# EAGLE library part 4VFX140FF1760 (library xilinx_spartan3_virtex4_and_5)
Xilinx FPGA
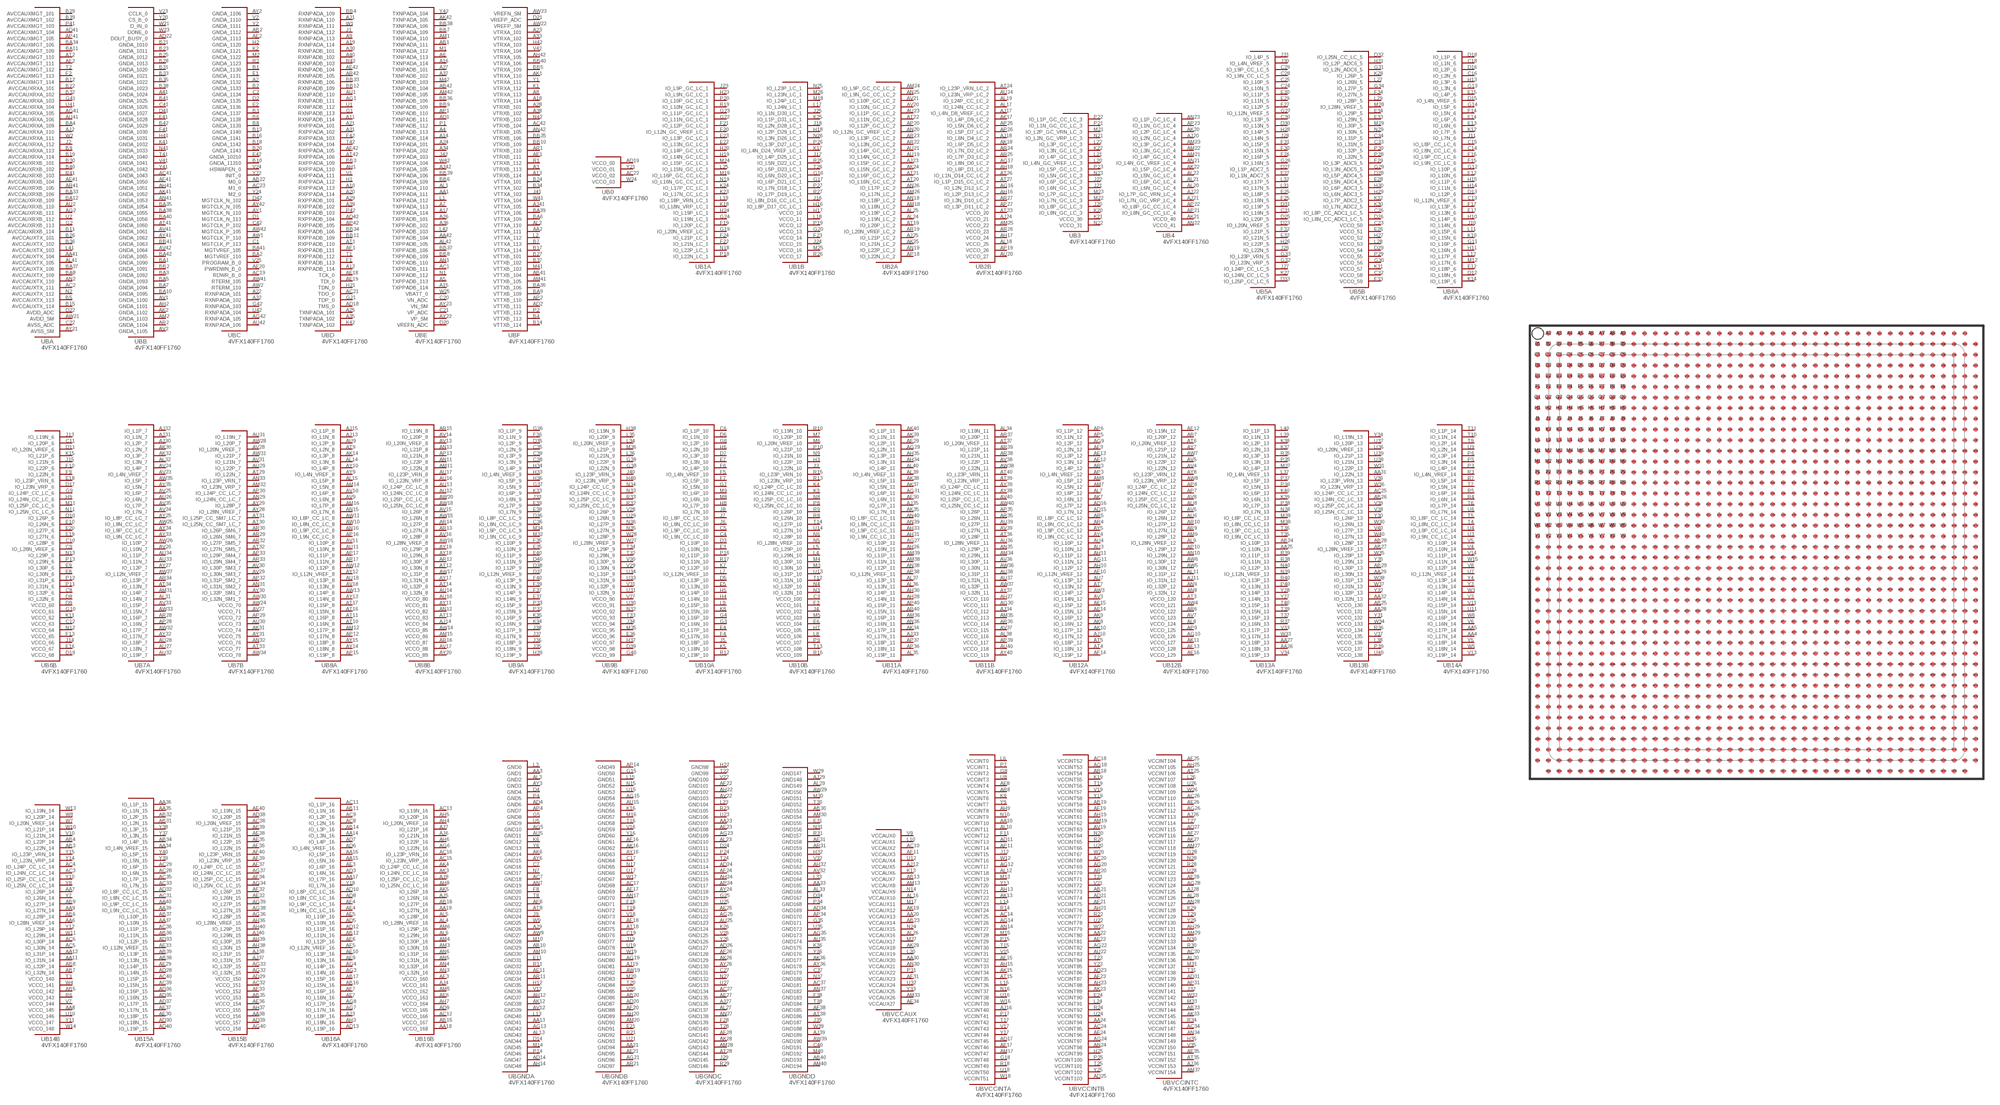
[diagram p71: symbol with the pads of FF1760; footprint FF1760]

Designator prefix U; gates BA=4VFX140FF1760_A BB=4VFX140FF1760_B BC=4VFX140FF1760_C BD=4VFX140FF1760_D BE=4VFX140FF1760_E BF=4VFX140FF1760_F B0=4VFX140FF1760_0 B1A=4VFX140FF1760_1A B1B=4VFX140FF1760_1B B2A=4VFX140FF1760_2A B2B=4VFX140FF1760_2B B3=4VFX140FF1760_3 B4=4VFX140FF1760_4 B5A=4VFX140FF1760_5A B5B=4VFX140FF1760_5B B6A=4VFX140FF1760_6A B6B=4VFX140FF1760_6B B7A=4VFX140FF1760_7A B7B=4VFX140FF1760_7B B8A=4VFX140FF1760_8A B8B=4VFX140FF1760_8B B9A=4VFX140FF1760_9A B9B=4VFX140FF1760_9B B10A=4VFX140FF1760_10A B10B=4VFX140FF1760_10B B11A=4VFX140FF1760_11A B11B=4VFX140FF1760_11B B12A=4VFX140FF1760_12A B12B=4VFX140FF1760_12B B13A=4VFX140FF1760_13A B13B=4VFX140FF1760_13B B14A=4VFX140FF1760_14A B14B=4VFX140FF1760_14B B15A=4VFX140FF1760_15A B15B=4VFX140FF1760_15B B16A=4VFX140FF1760_16A B16B=4VFX140FF1760_16B BGNDA=4VFX140FF1760_GNDA BGNDB=4VFX140FF1760_GNDB BGNDC=4VFX140FF1760_GNDC BGNDD=4VFX140FF1760_GNDD BVCCAUX=4VFX140FF1760_VCCAUX BVCCINTA=4VFX140FF1760_VCCINTA BVCCINTB=4VFX140FF1760_VCCINTB BVCCINTC=4VFX140FF1760_VCCINTC

## 4VFX140FF1760  [FF1760]
A2  BC:GNDA_1132
A3  BF:VTRXB_113
A4  BE:TXNPADB_113
A5  BE:TXPPADB_113
A6  BE:TXNPADA_113
A7  BE:TXPPADA_113
A8  BF:VTRXA_113
A9  BD:RXNPADA_113
A10  BD:RXPPADA_113
A11  BD:RXNPADB_114
A12  BD:RXPPADB_114
A13  BF:VTRXB_114
A14  BE:TXNPADB_114
A15  BE:TXPPADB_114
A16  BE:TXNPADA_114
A17  BE:TXPPADA_114
A18  BF:VTRXA_114
A19  BD:RXNPADA_114
A20  BD:RXPPADA_114
A21  BD:RXPPADA_101
A22  BC:RXNPADA_101
A23  BF:VTRXA_101
A24  BE:TXPPADA_101
A25  BD:TXNPADA_101
A26  BE:TXPPADB_101
A27  BE:TXNPADB_101
A28  BF:VTRXB_101
A29  BD:RXPPADB_101
A30  BD:RXNPADB_101
A31  BD:RXPPADA_102
A32  BC:RXNPADA_102
A33  BF:VTRXA_102
A34  BE:TXPPADA_102
A35  BD:TXNPADA_102
A36  BE:TXPPADB_102
A37  BE:TXNPADB_102
A38  BF:VTRXB_102
A39  BD:RXPPADB_102
A40  BD:RXNPADB_102
A41  BB:GNDA_1024
AA1  BE:TXPPADA_111
AA2  BF:VTTXA_111
AA3  BGNDA:GND1  pas
AA4  B14A:IO_L17N_14
AA5  B14A:IO_L17P_14
AA6  B14B:IO_L28N_VREF_14
AA7  B14B:IO_L26P_14
AA8  B14B:VCCO_145  pas
AA9  B14B:IO_L27N_14
AA10  BVCCINTA:VCCINT10  pas
AA11  B14B:IO_L31N_14
AA12  B14B:IO_L31P_14
AA13  BGNDA:GND41  pas
AA14  B16A:IO_L3N_16
AA15  B16A:IO_L5N_16
AA16  B16A:IO_L5P_16
AA17  B16A:IO_L7P_16
AA18  B16B:VCCO_168  pas
AA19  B16B:IO_L27N_16
AA20  BVCCAUX:VCCAUX13  pas
AA21  BGNDB:GND94  pas
AA22  BVCCINTB:VCCINT80  pas
AA23  BGNDC:GND107  pas
AA24  BVCCINTB:VCCINT94  pas
AA25  B13A:IO_L10N_13
AA26  B13A:IO_L18N_13
AA27  B13A:IO_L18P_13
AA28  B13B:VCCO_131  pas
AA29  B13B:IO_L30N_13
AA30  BVCCAUX:VCCAUX20  pas
AA31  B13B:IO_L22N_13
AA32  B13B:IO_L32N_13
AA33  BGNDD:GND165  pas
AA34  B15A:IO_L4N_VREF_15
AA35  B15A:IO_L1N_15
AA36  B15A:IO_L1P_15
AA37  B15A:IO_L10N_15
AA38  B15B:VCCO_156  pas
AA39  B15A:IO_L9N_CC_LC_15
AA40  B15A:IO_L9P_CC_LC_15
AA41  BA:AVCCAUXTX_104
AA42  BE:TXPPADB_104
AB1  BE:TXNPADA_111
AB2  BC:GNDA_1112
AB3  B14B:IO_L22N_14
AB4  B14B:IO_L22P_14
AB5  B14B:VCCO_142  pas
AB6  B14B:IO_L28P_14
AB7  B14B:IO_L32N_14
AB8  B14B:IO_L32P_14
AB9  B14B:IO_L27P_14
AB10  BGNDA:GND29  pas
AB11  B16A:IO_L1N_16
AB12  B16A:IO_L11N_16
AB13  BVCCAUX:VCCAUX7  pas
AB14  B16A:IO_L3P_16
AB15  B16B:VCCO_167  pas
AB16  B16A:IO_L15N_16
AB17  B16A:IO_L15P_16
AB18  B16B:IO_L27P_16
AB19  BVCCINTB:VCCINT59  pas
AB20  BGNDB:GND86  pas
AB21  BVCCINTB:VCCINT73  pas
AB22  BC:M0_0
AB23  BVCCAUX:VCCAUX14  pas
AB24  B13A:IO_L10P_13
AB25  B13B:VCCO_130  pas
AB26  B13B:IO_L24N_CC_LC_13
AB27  B13B:IO_L28N_VREF_13
AB28  B13B:IO_L28P_13
AB29  B13B:IO_L30P_13
AB30  BGNDD:GND153  pas
AB31  B15A:IO_L2N_15
AB32  B15A:IO_L2P_15
AB33  BVCCINTC:VCCINT144  pas
AB34  B15A:IO_L4P_15
AB35  B15B:VCCO_153  pas
AB36  B15A:IO_L11N_15
AB37  B15A:IO_L10P_15
AB38  B15A:IO_L13N_15
AB39  B15A:IO_L13P_15
AB40  BGNDD:GND193  pas
AB41  BF:VTTXB_104
AB42  BE:TXNPADB_104
AC1  BE:TXPPADB_111
AC2  BA:AVCCAUXTX_111
AC3  B14B:IO_L24N_CC_LC_14
AC4  B14B:IO_L24P_CC_LC_14
AC5  B14B:IO_L30N_14
AC6  B14B:IO_L30P_14
AC7  BGNDA:GND18  pas
AC8  B16A:IO_L2N_16
AC9  B16A:IO_L2P_16
AC10  BVCCAUX:VCCAUX2  pas
AC11  B16A:IO_L1P_16
AC12  B16B:VCCO_166  pas
AC13  B16B:IO_L19N_16
AC14  BVCCINTA:VCCINT25  pas
AC15  B16B:IO_L23N_VRP_16
AC16  B16B:IO_L23P_VRN_16
AC17  BGNDB:GND68  pas
AC18  BVCCINTB:VCCINT52  pas
AC19  BC:RDWR_B_0
AC20  BVCCINTB:VCCINT68  pas
AC21  BD:TDO_0
AC22  B0:VCCO_02  pas
AC23  BC:M1_0
AC24  BVCCINTB:VCCINT95  pas
AC25  B13B:IO_L24P_CC_LC_13
AC26  BVCCINTC:VCCINT110  pas
AC27  BGNDC:GND134  pas
AC28  B15A:IO_L6N_15
AC29  B15A:IO_L6P_15
AC30  BVCCINTC:VCCINT135  pas
AC31  B15A:IO_L8N_CC_LC_15
AC32  B15B:VCCO_151  pas
AC33  B15A:IO_L7N_15
AC34  BVCCINTC:VCCINT147  pas
AC35  B15A:IO_L7P_15
AC36  B15A:IO_L11P_15
AC37  BGNDD:GND181  pas
AC38  B15B:IO_L20N_VREF_15
AC39  B15A:IO_L15N_15
AC40  B15A:IO_L15P_15
AC41  BB:GNDA_1043
AC42  BF:VTRXB_104
AD1  BE:TXNPADB_111
AD2  BF:VTTXB_111
AD3  B16A:IO_L6N_16
AD4  BGNDA:GND6  pas
AD5  B16A:IO_L10N_16
AD6  B16A:IO_L4N_VREF_16
AD7  B16A:IO_L4P_16
AD8  B16A:IO_L8N_CC_LC_16
AD9  B16B:VCCO_165  pas
AD10  B16A:IO_L8P_CC_LC_16
AD11  BVCCINTA:VCCINT13  pas
AD12  B16A:IO_L11P_16
AD13  B16A:IO_L19P_16
AD14  BGNDA:GND47  pas
AD15  B12A:IO_L7N_12
AD16  B12A:IO_L7P_12
AD17  BVCCINTA:VCCINT45  pas
AD18  BD:TMS_0
AD19  B0:VCCO_00  pas
AD20  BGNDB:GND87  pas
AD21  BVCCINTB:VCCINT74  pas
AD22  BB:DOUT_BUSY_0
AD23  BVCCINTB:VCCINT86  pas
AD24  BGNDC:GND114  pas
AD25  BVCCINTB:VCCINT103  pas
AD26  BGNDC:GND127  pas
AD27  BVCCINTC:VCCINT115  pas
AD28  B15A:IO_L14N_15
AD29  B15B:VCCO_150  pas
AD30  B15A:IO_L18N_15
AD31  BVCCINTC:VCCINT139  pas
AD32  B15A:IO_L8P_CC_LC_15
AD33  B15A:IO_L12P_15
AD34  BGNDD:GND169  pas
AD35  B15A:IO_L16N_15
AD36  B15A:IO_L16P_15
AD37  B15A:IO_L17P_15
AD38  B15B:IO_L20P_15
AD39  B15B:VCCO_157  pas
AD40  B15A:IO_L19P_15
AD41  BA:AVCCAUXMGT_104
AD42  BD:RXPPADB_104
AE1  BF:VTRXB_111
AE2  BC:GNDA_1113
AE3  B16A:IO_L6P_16
AE4  B16A:IO_L9N_CC_LC_16
AE5  B16A:IO_L10P_16
AE6  B16B:VCCO_163  pas
AE7  B16A:IO_L16N_16
AE8  BVCCINTA:VCCINT4  pas
AE9  B16A:IO_L13N_16
AE10  B16A:IO_L13P_16
AE11  BGNDA:GND33  pas
AE12  B12A:IO_L3N_12
AE13  B12A:IO_L3P_12
AE14  B12A:IO_L15N_12
AE15  B12A:IO_L15P_12
AE16  B12B:VCCO_129  pas
AE17  BGNDB:GND69  pas
AE18  BD:TCK_0
AE19  BD:TDI_0
AE20  BC:PWRDWN_B_0
AE21  BGNDB:GND95  pas
AE22  BVCCINTB:VCCINT81  pas
AE23  BGNDC:GND108  pas
AE24  BVCCINTB:VCCINT96  pas
AE25  BGNDC:GND121  pas
AE26  BVCCINTC:VCCINT111  pas
AE27  BGNDC:GND135  pas
AE28  BVCCINTC:VCCINT123  pas
AE29  B15A:IO_L14P_15
AE30  B15A:IO_L18P_15
AE31  BGNDD:GND158  pas
AE32  B15B:IO_L26N_15
AE33  B15A:IO_L12N_VREF_15
AE34  BVCCAUX:VCCAUX27  pas
AE35  B15B:IO_L22P_15
AE36  B15B:VCCO_154  pas
AE37  B15A:IO_L17N_15
AE38  B15B:IO_L21N_15
AE39  B15B:IO_L21P_15
AE40  B15B:IO_L19N_15
AE41  BA:AVCCAUXRXB_104
AE42  BD:RXNPADB_104
AF1  BD:RXPPADB_111
AF2  BA:AVCCAUXMGT_111
AF3  B16B:VCCO_160  pas
AF4  B16A:IO_L9P_CC_LC_16
AF5  B16A:IO_L12N_VREF_16
AF6  B16A:IO_L12P_16
AF7  B16A:IO_L16P_16
AF8  BGNDA:GND22  pas
AF9  B12A:IO_L2N_12
AF10  B12A:IO_L12N_VREF_12
AF11  BVCCAUX:VCCAUX3  pas
AF12  B12B:IO_L19N_12
AF13  B12B:VCCO_128  pas
AF14  B12A:IO_L19P_12
AF15  BVCCINTA:VCCINT32  pas
AF16  BGNDB:GND61  pas
AF17  BVCCINTA:VCCINT46  pas
AF18  BGNDB:GND74  pas
AF19  BVCCINTB:VCCINT60  pas
AF20  BGNDB:GND88  pas
AF21  BVCCINTB:VCCINT75  pas
AF22  BGNDC:GND101  pas
AF23  BVCCINTB:VCCINT87  pas
AF24  BGNDC:GND115  pas
AF25  BVCCINTC:VCCINT104  pas
AF26  BGNDC:GND128  pas
AF27  BVCCINTC:VCCINT116  pas
AF28  BGNDC:GND141  pas
AF29  B11A:IO_L2P_11
AF30  B11A:IO_L6N_11
AF31  BVCCAUX:VCCAUX23  pas
AF32  B15B:IO_L26P_15
AF33  B15B:VCCO_152  pas
AF34  B15B:IO_L25P_CC_LC_15
AF35  BVCCINTC:VCCINT151  pas
AF36  B15B:IO_L22N_15
AF37  B15B:IO_L24P_CC_LC_15
AF38  BGNDD:GND185  pas
AF39  B15B:IO_L23N_VRP_15
AF40  B15B:IO_L23P_VRN_15
AF41  BB:GNDA_1050
AF42  BD:RXPPADA_105
AG1  BD:RXNPADB_111
AG2  BA:AVCCAUXRXB_111
AG3  B16A:IO_L14N_16
AG4  B16A:IO_L14P_16
AG5  BGNDA:GND10  pas
AG6  B16B:IO_L22N_16
AG7  B16A:IO_L17N_16
AG8  B16A:IO_L17P_16
AG9  B12A:IO_L2P_12
AG10  B12B:VCCO_126  pas
AG11  B12A:IO_L11N_12
AG12  BVCCINTA:VCCINT17  pas
AG13  BGNDA:GND42  pas
AG14  BVCCINTA:VCCINT26  pas
AG15  BGNDB:GND54  pas
AG16  B2B:IO_L2N_D12_LC_2
AG17  B2B:IO_L8N_D0_LC_2
AG18  BVCCINTB:VCCINT53  pas
AG19  BGNDB:GND80  pas
AG20  BVCCINTB:VCCINT69  pas
AG21  BGNDB:GND96  pas
AG22  BVCCINTB:VCCINT82  pas
AG23  BGNDC:GND109  pas
AG24  BVCCINTB:VCCINT97  pas
AG25  BGNDC:GND122  pas
AG26  BVCCINTC:VCCINT112  pas
AG27  B11A:IO_L10P_11
AG28  BVCCINTC:VCCINT124  pas
AG29  B11A:IO_L2N_11
AG30  B11B:VCCO_111  pas
AG31  B11A:IO_L6P_11
AG32  B15B:IO_L32N_15
AG33  B15B:IO_L32P_15
AG34  B15B:IO_L25N_CC_LC_15
AG35  BGNDD:GND173  pas
AG36  B15B:IO_L28P_15
AG37  B15B:IO_L24N_CC_LC_15
AG38  B15B:IO_L27N_15
AG39  B15B:IO_L27P_15
AG40  B15B:VCCO_158  pas
AG41  BA:AVCCAUXRXA_105
AG42  BC:RXNPADA_105
AH1  BD:RXPPADA_110
AH2  BB:GNDA_1101
AH3  B16A:IO_L18N_16
AH4  B16B:IO_L20N_VREF_16
AH5  B16B:IO_L20P_16
AH6  B16B:IO_L22P_16
AH7  B16B:VCCO_164  pas
AH8  B16B:IO_L25N_CC_LC_16
AH9  BVCCINTA:VCCINT8  pas
AH10  B12A:IO_L12P_12
AH11  B12A:IO_L11P_12
AH12  BGNDA:GND37  pas
AH13  BVCCINTA:VCCINT21  pas
AH14  BGNDA:GND48  pas
AH15  BVCCINTA:VCCINT33  pas
AH16  B2B:IO_L2P_D13_LC_2
AH17  B2B:VCCO_24  pas
AH18  B2B:IO_L8P_D1_LC_2
AH19  BVCCINTB:VCCINT61  pas
AH20  BGNDB:GND89  pas
AH21  BVCCINTB:VCCINT76  pas
AH22  BGNDC:GND102  pas
AH23  BVCCINTB:VCCINT88  pas
AH24  BGNDC:GND116  pas
AH25  BVCCINTC:VCCINT105  pas
AH26  B11A:IO_L10N_11
AH27  B11B:VCCO_110  pas
AH28  B11A:IO_L14N_11
AH29  BVCCINTC:VCCINT131  pas
AH30  B11A:IO_L14P_11
AH31  B11A:IO_L9N_CC_LC_11
AH32  BGNDD:GND162  pas
AH33  B11A:IO_L9P_CC_LC_11
AH34  B11A:IO_L3N_11
AH35  B11A:IO_L3P_11
AH36  B15B:IO_L28N_VREF_15
AH37  B15B:VCCO_155  pas
AH38  B15B:IO_L30N_15
AH39  B15B:IO_L30P_15
AH40  B15B:IO_L29P_15
AH41  BB:GNDA_1051
AH42  BF:VTRXA_105
AJ1  BD:RXNPADA_110
AJ2  BA:AVCCAUXRXA_110
AJ3  B16A:IO_L18P_16
AJ4  B16B:VCCO_161  pas
AJ5  B16B:IO_L26N_16
AJ6  B16B:IO_L21N_16
AJ7  B16B:IO_L21P_16
AJ8  B16B:IO_L25P_CC_LC_16
AJ9  BGNDA:GND26  pas
AJ10  B12A:IO_L17N_12
AJ11  B12B:IO_L31N_12
AJ12  BVCCAUX:VCCAUX5  pas
AJ13  B8A:IO_L1N_8
AJ14  B8B:VCCO_84  pas
AJ15  B8A:IO_L1P_8
AJ16  BVCCINTA:VCCINT40  pas
AJ17  B2B:IO_L4N_D8_VREF_LC_2
AJ18  B2B:IO_L6N_D4_LC_2
AJ19  BGNDB:GND81  pas
AJ20  B4:IO_L2N_GC_LC_4
AJ21  B4:IO_L7N_GC_VRP_LC_4
AJ22  B4:IO_L7P_GC_VRN_LC_4
AJ23  B2A:IO_L15P_GC_LC_2
AJ24  B2B:VCCO_21  pas
AJ25  B2A:IO_L21P_LC_2
AJ26  BVCCINTC:VCCINT113  pas
AJ27  BGNDC:GND136  pas
AJ28  BVCCINTC:VCCINT125  pas
AJ29  BGNDD:GND148  pas
AJ30  B7A:IO_L2P_7
AJ31  B7A:IO_L1N_7
AJ32  B7A:IO_L1P_7
AJ33  B11A:IO_L17N_11
AJ34  B11B:VCCO_112  pas
AJ35  B11A:IO_L7P_11
AJ36  BVCCINTC:VCCINT153  pas
AJ37  B15B:IO_L31N_15
AJ38  B15B:IO_L31P_15
AJ39  BGNDD:GND189  pas
AJ40  B15B:IO_L29N_15
AJ41  BF:VTTXA_105
AJ42  BE:TXPPADA_105
AK1  BF:VTRXA_110
AK2  BB:GNDA_1102
AK3  B16B:IO_L24N_CC_LC_16
AK4  B16B:IO_L24P_CC_LC_16
AK5  B16B:IO_L26P_16
AK6  BGNDA:GND14  pas
AK7  B12A:IO_L6N_12
AK8  B12A:IO_L16N_12
AK9  B12A:IO_L16P_12
AK10  B12A:IO_L17P_12
AK11  B12B:VCCO_127  pas
AK12  BGNDA:GND38  pas
AK13  BVCCINTA:VCCINT22  pas
AK14  B8A:IO_L3P_8
AK15  BVCCINTA:VCCINT34  pas
AK16  BGNDB:GND62  pas
AK17  B2B:IO_L4P_D9_LC_2
AK18  B2B:IO_L6P_D5_LC_2
AK19  BVCCAUX:VCCAUX12  pas
AK20  B4:IO_L2P_GC_LC_4
AK21  B4:VCCO_40  pas
AK22  B4:IO_L5P_GC_LC_4
AK23  BVCCINTB:VCCINT89  pas
AK24  B2A:IO_L15N_GC_LC_2
AK25  B2A:IO_L21N_LC_2
AK26  BGNDC:GND129  pas
AK27  BVCCINTC:VCCINT117  pas
AK28  BGNDC:GND142  pas
AK29  BVCCAUX:VCCAUX18  pas
AK30  B7A:IO_L2N_7
AK31  B7B:VCCO_74  pas
AK32  B7A:IO_L3P_7
AK33  BVCCINTC:VCCINT145  pas
AK34  B11A:IO_L17P_11
AK35  B11A:IO_L7N_11
AK36  BGNDD:GND177  pas
AK37  B11A:IO_L5N_11
AK38  B11A:IO_L5P_11
AK39  B11A:IO_L1N_11
AK40  B11A:IO_L1P_11
AK41  BB:GNDA_1052
AK42  BE:TXNPADA_105
AL1  BE:TXPPADA_110
AL2  BF:VTTXA_110
AL3  BGNDA:GND2  pas
AL4  B16B:IO_L28N_VREF_16
AL5  B16B:IO_L28P_16
AL6  B16B:IO_L29N_16
AL7  B12A:IO_L6P_12
AL8  B12B:VCCO_124  pas
AL9  B12B:IO_L28N_VREF_12
AL10  BVCCINTA:VCCINT11  pas
AL11  B12B:IO_L31P_12
AL12  BVCCINTA:VCCINT18  pas
AL13  BGNDA:GND43  pas
AL14  B8A:IO_L3N_8
AL15  B8A:IO_L5P_8
AL16  BVCCAUX:VCCAUX10  pas
AL17  B2B:IO_L24N_CC_LC_2
AL18  B2B:VCCO_25  pas
AL19  B2B:IO_L24P_CC_LC_2
AL20  B4:IO_L6N_GC_LC_4
AL21  B4:IO_L6P_GC_LC_4
AL22  B4:IO_L5N_GC_LC_4
AL23  BGNDC:GND110  pas
AL24  B2A:IO_L19N_LC_2
AL25  B2A:IO_L19P_LC_2
AL26  BVCCAUX:VCCAUX16  pas
AL27  BGNDC:GND137  pas
AL28  BVCCINTC:VCCINT126  pas
AL29  BGNDD:GND149  pas
AL30  BVCCINTC:VCCINT136  pas
AL31  B7A:IO_L14N_7
AL32  B7A:IO_L3N_7
AL33  BGNDD:GND166  pas
AL34  B11B:IO_L19N_11
AL35  B11A:IO_L19P_11
AL36  B11A:IO_L13N_11
AL37  B11A:IO_L13P_11
AL38  B11B:VCCO_116  pas
AL39  B11A:IO_L4N_VREF_11
AL40  B11A:IO_L4P_11
AL41  BA:AVCCAUXTX_105
AL42  BE:TXPPADB_105
AM1  BE:TXNPADA_110
AM2  BB:GNDA_1103
AM3  B16B:IO_L30N_16
AM4  B16B:IO_L30P_16
AM5  B16B:VCCO_162  pas
AM6  B16B:IO_L29P_16
AM7  B12A:IO_L5N_12
AM8  B12A:IO_L5P_12
AM9  B12B:IO_L28P_12
AM10  BGNDA:GND30  pas
AM11  B8B:IO_L22N_8
AM12  B8A:IO_L17P_8
AM13  BVCCAUX:VCCAUX8  pas
AM14  B8A:IO_L5N_8
AM15  B8B:VCCO_86  pas
AM16  B8A:IO_L7P_8
AM17  BVCCINTA:VCCINT47  pas
AM18  B2A:IO_L18N_LC_2
AM19  BVCCINTB:VCCINT62  pas
AM20  BGNDB:GND90  pas
AM21  B4:IO_L4P_GC_LC_4
AM22  B4:IO_L3N_GC_LC_4
AM23  B4:IO_L3P_GC_LC_4
AM24  B2A:IO_L9P_GC_CC_LC_2
AM25  B2B:VCCO_22  pas
AM26  B2A:IO_L17N_LC_2
AM27  BVCCINTC:VCCINT118  pas
AM28  BGNDC:GND143  pas
AM29  BVCCINTC:VCCINT132  pas
AM30  BGNDD:GND154  pas
AM31  B7A:IO_L14P_7
AM32  B7B:IO_L23N_VRP_7
AM33  BVCCAUX:VCCAUX26  pas
AM34  B11B:IO_L29N_11
AM35  B11B:VCCO_113  pas
AM36  B11A:IO_L16P_11
AM37  BVCCINTC:VCCINT154  pas
AM38  B11A:IO_L11N_11
AM39  B11A:IO_L11P_11
AM40  BGNDD:GND194  pas
AM41  BF:VTTXB_105
AM42  BE:TXNPADB_105
AN1  BE:TXPPADB_110
AN2  BA:AVCCAUXTX_110
AN3  B16B:IO_L32N_16
AN4  B16B:IO_L32P_16
AN5  B16B:IO_L31N_16
AN6  B16B:IO_L31P_16
AN7  BGNDA:GND19  pas
AN8  B12B:IO_L32N_12
AN9  B12B:IO_L32P_12
AN10  B12B:IO_L29N_12
AN11  B8B:IO_L22P_8
AN12  B8B:VCCO_82  pas
AN13  B8B:IO_L21P_8
AN14  BVCCINTA:VCCINT27  pas
AN15  B8A:IO_L7N_8
AN16  B8A:IO_L9P_CC_LC_8
AN17  BGNDB:GND70  pas
AN18  B2A:IO_L18P_LC_2
AN19  B2A:IO_L22P_LC_2
AN20  B2A:IO_L12N_GC_VREF_LC_2
AN21  B4:IO_L4N_GC_VREF_LC_4
AN22  B4:VCCO_41  pas
AN23  B4:IO_L1P_GC_LC_4
AN24  BVCCINTB:VCCINT98  pas
AN25  B2A:IO_L9N_GC_CC_LC_2
AN26  B2A:IO_L17P_LC_2
AN27  BGNDC:GND138  pas
AN28  BVCCINTC:VCCINT127  pas
AN29  B7B:IO_L24N_CC_LC_7
AN30  BVCCAUX:VCCAUX21  pas
AN31  B7B:IO_L31N_SM2_7
AN32  B7B:VCCO_76  pas
AN33  B7B:IO_L23P_VRN_7
AN34  BVCCINTC:VCCINT148  pas
AN35  B11B:IO_L29P_11
AN36  B11A:IO_L16N_11
AN37  BGNDD:GND182  pas
AN38  B11A:IO_L12P_11
AN39  B11A:IO_L8N_CC_LC_11
AN40  B11A:IO_L8P_CC_LC_11
AN41  BB:GNDA_1053
AN42  BF:VTRXB_105
AP1  BE:TXNPADB_110
AP2  BF:VTTXB_110
AP3  B12A:IO_L4N_VREF_12
AP4  BGNDA:GND7  pas
AP5  B12A:IO_L1N_12
AP6  B12A:IO_L1P_12
AP7  B12B:IO_L24N_CC_LC_12
AP8  B12B:IO_L24P_CC_LC_12
AP9  B12B:VCCO_125  pas
AP10  B12B:IO_L29P_12
AP11  BVCCINTA:VCCINT14  pas
AP12  B8A:IO_L17N_8
AP13  B8B:IO_L21N_8
AP14  BGNDB:GND49  pas
AP15  B8A:IO_L19P_8
AP16  B8A:IO_L9N_CC_LC_8
AP17  B8A:IO_L11P_8
AP18  B2A:IO_L22N_LC_2
AP19  B2B:VCCO_26  pas
AP20  B2A:IO_L12P_GC_LC_2
AP21  B4:IO_L8N_GC_CC_LC_4
AP22  B4:IO_L8P_GC_CC_LC_4
AP23  B4:IO_L1N_GC_LC_4
AP24  BGNDC:GND117  pas
AP25  B2B:IO_L5N_D6_LC_2
AP26  B2B:IO_L5P_D7_LC_2
AP27  B2B:IO_L3P_D11_LC_2
AP28  B7A:IO_L16N_7
AP29  B7B:VCCO_72  pas
AP30  B7B:IO_L24P_CC_LC_7
AP31  BVCCINTC:VCCINT140  pas
AP32  B7B:IO_L31P_SM2_7
AP33  B7B:IO_L29P_SM4_7
AP34  BGNDD:GND170  pas
AP35  B11B:IO_L26P_11
AP36  B11A:IO_L18N_11
AP37  B11A:IO_L18P_11
AP38  B11A:IO_L12N_VREF_11
AP39  B11B:VCCO_117  pas
AP40  B11A:IO_L15P_11
AP41  BA:AVCCAUXMGT_105
AP42  BD:RXPPADB_105
AR1  BF:VTRXB_110
AR2  BB:GNDA_1104
AR3  B12A:IO_L4P_12
AR4  B12A:IO_L8N_CC_LC_12
AR5  B12A:IO_L8P_CC_LC_12
AR6  B12B:VCCO_122  pas
AR7  B12B:IO_L20P_12
AR8  BVCCINTA:VCCINT5  pas
AR9  B12B:IO_L27N_12
AR10  B12B:IO_L27P_12
AR11  BGNDA:GND34  pas
AR12  B8B:IO_L30P_8
AR13  B8B:IO_L27N_8
AR14  B8B:IO_L27P_8
AR15  B8B:IO_L19N_8
AR16  B8B:VCCO_87  pas
AR17  B8A:IO_L11N_8
AR18  BVCCINTB:VCCINT54  pas
AR19  B2A:IO_L20N_VREF_LC_2
AR20  BVCCINTB:VCCINT70  pas
AR21  BGNDB:GND97  pas
AR22  B2A:IO_L13N_GC_LC_2
AR23  B2A:IO_L13P_GC_LC_2
AR24  B2B:IO_L7N_D2_LC_2
AR25  B2B:IO_L7P_D3_LC_2
AR26  B2B:VCCO_23  pas
AR27  B2B:IO_L3N_D10_LC_2
AR28  B7A:IO_L16P_7
AR29  B7B:IO_L26N_SM6_7
AR30  B7B:IO_L26P_SM6_7
AR31  BGNDD:GND159  pas
AR32  B7B:IO_L27P_SM5_7
AR33  B7B:IO_L29N_SM4_7
AR34  B7A:IO_L13P_7
AR35  B11B:IO_L26N_11
AR36  B11B:VCCO_114  pas
AR37  B11B:IO_L20P_11
AR38  B11B:IO_L21N_11
AR39  B11B:IO_L21P_11
AR40  B11A:IO_L15N_11
AR41  BA:AVCCAUXRXB_105
AR42  BD:RXNPADB_105
AT1  BD:RXPPADB_110
AT2  BA:AVCCAUXMGT_110
AT3  B12B:VCCO_120  pas
AT4  B12A:IO_L18N_12
AT5  B12A:IO_L18P_12
AT6  B12B:IO_L20N_VREF_12
AT7  B12A:IO_L13N_12
AT8  BGNDA:GND23  pas
AT9  B8A:IO_L2N_8
AT10  B8A:IO_L16N_8
AT11  B8A:IO_L16P_8
AT12  B8B:IO_L30N_8
AT13  B8B:VCCO_83  pas
AT14  B8B:IO_L32P_8
AT15  BVCCINTA:VCCINT35  pas
AT16  B8A:IO_L15N_8
AT17  B8A:IO_L15P_8
AT18  BGNDB:GND75  pas
AT19  B2A:IO_L20P_LC_2
AT20  B2A:IO_L16N_GC_LC_2
AT21  B2A:IO_L16P_GC_LC_2
AT22  B2A:IO_L11N_GC_LC_2
AT23  B2B:VCCO_20  pas
AT24  B2B:IO_L23P_VRN_LC_2
AT25  BVCCINTC:VCCINT106  pas
AT26  B2B:IO_L1N_D14_CC_LC_2
AT27  B2B:IO_L1P_D15_CC_LC_2
AT28  BGNDC:GND144  pas
AT29  B7B:IO_L22N_7
AT30  B7B:IO_L25N_CC_SM7_LC_7
AT31  B7B:IO_L25P_CC_SM7_LC_7
AT32  B7B:IO_L27N_SM5_7
AT33  B7B:VCCO_77  pas
AT34  B7A:IO_L13N_7
AT35  BVCCINTC:VCCINT152  pas
AT36  B11B:IO_L28P_11
AT37  B11B:IO_L20N_VREF_11
AT38  BGNDD:GND186  pas
AT39  B11B:IO_L23N_VRP_11
AT40  B11B:IO_L23P_VRN_11
AT41  BB:GNDA_1060
AT42  BD:RXPPADA_106
AU1  BD:RXNPADB_110
AU2  BA:AVCCAUXRXB_110
AU3  B12A:IO_L10N_12
AU4  B12A:IO_L10P_12
AU5  BGNDA:GND11  pas
AU6  B12B:IO_L26N_12
AU7  B12A:IO_L13P_12
AU8  B12B:IO_L25N_CC_LC_12
AU9  B8A:IO_L2P_8
AU10  B8B:VCCO_80  pas
AU11  B8A:IO_L10N_8
AU12  B8B:IO_L24N_CC_LC_8
AU13  B8B:IO_L24P_CC_LC_8
AU14  B8B:IO_L32N_8
AU15  BGNDB:GND55  pas
AU16  B8B:IO_L23N_VRP_8
AU17  B8B:IO_L23P_VRN_8
AU18  B8A:IO_L13P_8
AU19  B2A:IO_L14N_GC_LC_2
AU20  B2B:VCCO_27  pas
AU21  B2A:IO_L14P_GC_LC_2
AU22  BVCCINTB:VCCINT83  pas
AU23  B2A:IO_L11P_GC_LC_2
AU24  B2B:IO_L23N_VRP_LC_2
AU25  BGNDC:GND123  pas
AU26  B7A:IO_L6N_7
AU27  B7A:IO_L18N_7
AU28  B7A:IO_L18P_7
AU29  B7B:IO_L22P_7
AU30  B7B:VCCO_73  pas
AU31  B7B:IO_L19N_7
AU32  B7A:IO_L19P_7
AU33  B7A:IO_L11N_7
AU34  B7A:IO_L11P_7
AU35  BGNDD:GND174  pas
AU36  B11B:IO_L28N_VREF_11
AU37  B11B:IO_L31N_11
AU38  B11B:IO_L31P_11
AU39  B11B:IO_L27P_11
AU40  B11B:VCCO_118  pas
AU41  BA:AVCCAUXRXA_106
AU42  BC:RXNPADA_106
AV1  BB:GNDA_1100
AV2  BB:GNDA_1105
AV3  B12A:IO_L14N_12
AV4  B12B:IO_L22N_12
AV5  B12B:IO_L22P_12
AV6  B12B:IO_L26P_12
AV7  B12B:VCCO_123  pas
AV8  B12B:IO_L25P_CC_LC_12
AV9  B8A:IO_L6N_8
AV10  B8A:IO_L6P_8
AV11  B8A:IO_L10P_8
AV12  BGNDA:GND39  pas
AV13  B8B:IO_L20N_VREF_8
AV14  B8B:IO_L20P_8
AV15  B8B:IO_L26P_8
AV16  B8B:IO_L28P_8
AV17  B8B:VCCO_88  pas
AV18  B8A:IO_L13N_8
AV19  BVCCINTB:VCCINT63  pas
AV20  B2A:IO_L10N_GC_LC_2
AV21  B2A:IO_L10P_GC_LC_2
AV22  BGNDC:GND103  pas
AV23  B7A:IO_L4N_VREF_7
AV24  B7A:IO_L4P_7
AV25  B7A:IO_L6P_7
AV26  B7A:IO_L10N_7
AV27  B7B:VCCO_71  pas
AV28  B7B:IO_L20N_VREF_7
AV29  B7B:IO_L30N_SM3_7
AV30  B7B:IO_L30P_SM3_7
AV31  B7B:IO_L21N_7
AV32  BGNDD:GND163  pas
AV33  B7A:IO_L15P_7
AV34  B7A:IO_L7N_7
AV35  B7A:IO_L7P_7
AV36  B11B:IO_L30P_11
AV37  B11B:VCCO_115  pas
AV38  B11B:IO_L22P_11
AV39  B11B:IO_L27N_11
AV40  B11B:IO_L25P_CC_LC_11
AV41  BB:GNDA_1061
AV42  BB:GNDA_1064
AW1  BC:MGTCLK_P_110
AW2  BC:RTERM_110
AW3  B12A:IO_L14P_12
AW4  B12B:VCCO_121  pas
AW5  B12B:IO_L30N_12
AW6  B12B:IO_L30P_12
AW7  B12B:IO_L21N_12
AW8  B12B:IO_L23N_VRP_12
AW9  BGNDA:GND27  pas
AW10  B8A:IO_L8N_CC_LC_8
AW11  B8A:IO_L8P_CC_LC_8
AW12  B8A:IO_L12P_8
AW13  B8A:IO_L14P_8
AW14  B8B:VCCO_85  pas
AW15  B8B:IO_L26N_8
AW16  B8B:IO_L28N_VREF_8
AW17  B8B:IO_L31P_8
AW18  B8B:IO_L25N_CC_LC_8
AW19  BGNDB:GND82  pas
AW20  B8B:IO_L25P_CC_LC_8
AW21  BA:AVDD_SM
AW22  BF:VREFP_SM
AW23  BF:VREFN_SM
AW24  B7B:VCCO_70  pas
AW25  B7A:IO_L8N_CC_LC_7
AW26  B7A:IO_L10P_7
AW27  B7A:IO_L12N_VREF_7
AW28  B7B:IO_L20P_7
AW29  BGNDD:GND150  pas
AW30  B7B:IO_L32N_SM1_7
AW31  B7B:IO_L21P_7
AW32  B7A:IO_L17P_7
AW33  B7A:IO_L15N_7
AW34  B7B:VCCO_78  pas
AW35  B7A:IO_L5P_7
AW36  B11B:IO_L30N_11
AW37  B11B:IO_L32P_11
AW38  B11B:IO_L22N_11
AW39  BGNDD:GND190  pas
AW40  B11B:IO_L25N_CC_LC_11
AW41  BC:RTERM_105
AW42  BC:MGTCLK_P_105
AY1  BC:MGTCLK_N_110
AY2  BC:GNDA_1106
AY3  BGNDA:GND3  pas
AY4  B12A:IO_L9N_CC_LC_12
AY5  B12A:IO_L9P_CC_LC_12
AY6  BGNDA:GND15  pas
AY7  B12B:IO_L21P_12
AY8  B12B:IO_L23P_VRN_12
AY9  B8A:IO_L4N_VREF_8
AY10  B8A:IO_L4P_8
AY11  B8B:VCCO_81  pas
AY12  B8A:IO_L12N_VREF_8
AY13  B8A:IO_L14N_8
AY14  B8A:IO_L18N_8
AY15  B8A:IO_L18P_8
AY16  BGNDB:GND63  pas
AY17  B8B:IO_L31N_8
AY18  B8B:IO_L29N_8
AY19  B8B:IO_L29P_8
AY20  B8B:VCCO_89  pas
AY21  BA:AVSS_SM
AY22  BE:VP_SM
AY23  BE:VN_SM
AY24  BGNDC:GND118  pas
AY25  B7A:IO_L8P_CC_LC_7
AY26  BGNDC:GND130  pas
AY27  B7A:IO_L12P_7
AY28  B7B:IO_L28N_VREF_7
AY29  B7B:IO_L28P_7
AY30  B7B:IO_L32P_SM1_7
AY31  B7B:VCCO_75  pas
AY32  B7A:IO_L17N_7
AY33  B7A:IO_L9N_CC_LC_7
AY34  B7A:IO_L9P_CC_LC_7
AY35  B7A:IO_L5N_7
AY36  BGNDD:GND178  pas
AY37  B11B:IO_L32N_11
AY38  B11B:IO_L24N_CC_LC_11
AY39  B11B:IO_L24P_CC_LC_11
AY40  B11B:VCCO_119  pas
AY41  BB:GNDA_1062
AY42  BC:MGTCLK_N_105
B1  BC:GNDA_1130
B2  BC:GNDA_1133
B3  BC:GNDA_1137
B4  BF:VTTXB_113
B5  BA:AVCCAUXTX_113
B6  BC:GNDA_1138
B7  BF:VTTXA_113
B8  BC:GNDA_1139
B9  BA:AVCCAUXRXA_113
B10  BC:GNDA_11310
B11  BA:AVCCAUXRXB_114
B12  BA:AVCCAUXMGT_114
B13  BC:GNDA_1140
B14  BF:VTTXB_114
B15  BA:AVCCAUXTX_114
B16  BC:GNDA_1141
B17  BF:VTTXA_114
B18  BC:GNDA_1142
B19  BA:AVCCAUXRXA_114
B20  BC:GNDA_1143
B21  BB:GNDA_1010
B22  BA:AVCCAUXRXA_101
B23  BB:GNDA_1011
B24  BF:VTTXA_101
B25  BB:GNDA_1012
B26  BA:AVCCAUXTX_101
B27  BF:VTTXB_101
B28  BB:GNDA_1013
B29  BA:AVCCAUXMGT_101
B30  BA:AVCCAUXRXB_101
B31  BB:GNDA_1020
B32  BA:AVCCAUXRXA_102
B33  BB:GNDA_1021
B34  BF:VTTXA_102
B35  BB:GNDA_1022
B36  BA:AVCCAUXTX_102
B37  BF:VTTXB_102
B38  BB:GNDA_1023
B39  BA:AVCCAUXMGT_102
B40  BA:AVCCAUXRXB_102
B41  BB:GNDA_1025
B42  BB:GNDA_1029
BA1  BB:GNDA_1090
BA2  BC:MGTVREF_110
BA3  BB:GNDA_1092
BA4  BA:AVCCAUXRXA_109
BA5  BB:GNDA_1093
BA6  BF:VTTXA_109
BA7  BB:GNDA_1094
BA8  BA:AVCCAUXTX_109
BA9  BF:VTTXB_109
BA10  BB:GNDA_1095
BA11  BA:AVCCAUXMGT_109
BA12  BA:AVCCAUXRXB_109
BA33  BA:AVCCAUXRXB_106
BA34  BA:AVCCAUXMGT_106
BA35  BB:GNDA_1054
BA36  BF:VTTXB_106
BA37  BA:AVCCAUXTX_106
BA38  BB:GNDA_1055
BA39  BF:VTTXA_106
BA40  BB:GNDA_1056
BA41  BC:MGTVREF_105
BA42  BB:GNDA_1065
BB2  BB:GNDA_1091
BB3  BD:RXPPADA_109
BB4  BD:RXNPADA_109
BB5  BF:VTRXA_109
BB6  BE:TXPPADA_109
BB7  BE:TXNPADA_109
BB8  BE:TXPPADB_109
BB9  BE:TXNPADB_109
BB10  BF:VTRXB_109
BB11  BD:RXPPADB_109
BB12  BD:RXNPADB_109
BB33  BD:RXNPADB_106
BB34  BD:RXPPADB_106
BB35  BF:VTRXB_106
BB36  BE:TXNPADB_106
BB37  BE:TXPPADB_106
BB38  BE:TXNPADA_106
BB39  BE:TXPPADA_106
BB40  BF:VTRXA_106
BB41  BB:GNDA_1063
C1  BC:MGTCLK_P_113
C2  BC:GNDA_1134
C3  B10B:VCCO_100  pas
C4  B10A:IO_L9N_CC_LC_10
C5  B10A:IO_L9P_CC_LC_10
C6  B10A:IO_L1P_10
C7  BGNDA:GND16  pas
C8  B6B:IO_L32P_6
C9  B6B:IO_L28N_VREF_6
C10  B6B:IO_L28P_6
C11  B6B:IO_L20P_6
C12  B6B:VCCO_63  pas
C13  B6A:IO_L12N_VREF_6
C14  B6A:IO_L8N_CC_LC_6
C15  B6A:IO_L8P_CC_LC_6
C16  B6A:IO_L2N_6
C17  BGNDB:GND64  pas
C18  B6A:IO_L1N_6
C19  BGNDB:GND76  pas
C20  BE:VN_ADC
C21  BE:VP_ADC
C22  BA:AVSS_ADC
C23  B5B:VCCO_50  pas
C24  B5A:IO_L10N_5
C25  B5A:IO_L10P_5
C26  B5B:IO_L8P_CC_ADC1_LC_5
C27  BGNDC:GND131  pas
C28  B5A:IO_L9N_CC_LC_5
C29  B5A:IO_L9P_CC_LC_5
C30  B5A:IO_L13P_5
C31  B5A:IO_L19N_5
C32  B5B:VCCO_58  pas
C33  B5B:IO_L31N_5
C34  B5B:IO_L31P_5
C35  B9A:IO_L2N_9
C36  B9A:IO_L8N_CC_LC_9
C37  BGNDD:GND179  pas
C38  B9A:IO_L3N_9
C39  B9A:IO_L3P_9
C40  BGNDD:GND191  pas
C41  BB:GNDA_1026
C42  BC:MGTCLK_P_102
D1  BC:MGTCLK_N_113
D2  BC:GNDA_1135
D3  B10A:IO_L10P_10
D4  BGNDA:GND4  pas
D5  B10A:IO_L13P_10
D6  B10A:IO_L1N_10
D7  B10A:IO_L3P_10
D8  B6B:IO_L32N_6
D9  B6B:VCCO_60  pas
D10  B6B:IO_L26P_6
D11  B6B:IO_L20N_VREF_6
D12  B6A:IO_L18N_6
D13  B6A:IO_L12P_6
D14  BGNDA:GND44  pas
D15  B6A:IO_L4N_VREF_6
D16  B6A:IO_L2P_6
D17  B6B:IO_L23N_VRP_6
D18  B6A:IO_L1P_6
D19  B6B:VCCO_68  pas
D20  BE:VREFN_ADC
D21  BF:VREFP_ADC
D22  BA:AVDD_ADC
D23  B5A:IO_L20N_VREF_5
D24  BGNDC:GND111  pas
D25  B5A:IO_L20P_5
D26  B5B:IO_L8N_CC_ADC1_LC_5
D27  B5A:IO_L1P_ADC7_5
D28  B5B:IO_L5P_ADC4_5
D29  B5B:VCCO_54  pas
D30  B5A:IO_L13N_5
D31  B5A:IO_L19P_5
D32  B5B:IO_L25N_CC_LC_5
D33  B5A:IO_L25P_CC_LC_5
D34  BGNDD:GND167  pas
D35  B9A:IO_L2P_9
D36  B9A:IO_L8P_CC_LC_9
D37  B9A:IO_L12N_VREF_9
D38  B9A:IO_L12P_9
D39  B9B:VCCO_98  pas
D40  B9A:IO_L11N_9
D41  BB:GNDA_1027
D42  BC:MGTCLK_N_102
E1  BC:GNDA_1131
E2  BC:GNDA_1136
E3  B10A:IO_L10N_10
E4  B10A:IO_L17P_10
E5  B10A:IO_L13N_10
E6  B10B:VCCO_104  pas
E7  B10A:IO_L3N_10
E8  B6B:IO_L30N_6
E9  B6B:IO_L30P_6
E10  B6B:IO_L26N_6
E11  BGNDA:GND31  pas
E12  B6A:IO_L18P_6
E13  B6A:IO_L6N_6
E14  B6A:IO_L6P_6
E15  B6A:IO_L4P_6
E16  B6B:VCCO_67  pas
E17  B6A:IO_L13N_6
E18  B6B:IO_L23P_VRN_6
E19  B6B:IO_L27N_6
E20  B6B:IO_L27P_6
E21  BGNDB:GND91  pas
E22  B1A:IO_L13N_GC_LC_1
E23  B1A:IO_L13P_GC_LC_1
E24  BVCCINTB:VCCINT90  pas
E25  B5A:IO_L18P_5
E26  B5B:VCCO_51  pas
E27  B5A:IO_L1N_ADC7_5
E28  B5B:IO_L5N_ADC4_5
E29  B5A:IO_L11N_5
E30  B5A:IO_L11P_5
E31  BGNDD:GND155  pas
E32  B5A:IO_L21N_5
E33  B5B:IO_L29N_5
E34  B5B:IO_L29P_5
E35  B9A:IO_L10N_9
E36  B9B:VCCO_96  pas
E37  B9A:IO_L14N_9
E38  B9A:IO_L7N_9
E39  B9A:IO_L7P_9
E40  B9A:IO_L11P_9
E41  BB:GNDA_1028
E42  BC:GNDA_10210
F1  BD:RXPPADB_113
F2  BA:AVCCAUXMGT_113
F3  B10B:VCCO_101  pas
F4  B10A:IO_L17N_10
F5  B10A:IO_L4N_VREF_10
F6  B10A:IO_L4P_10
F7  B10A:IO_L5P_10
F8  BGNDA:GND20  pas
F9  B6B:IO_L22N_6
F10  B6B:IO_L22P_6
F11  BVCCINTA:VCCINT12  pas
F12  B6A:IO_L10N_6
F13  B6B:VCCO_65  pas
F14  B6A:IO_L5N_6
F15  B6A:IO_L9N_CC_LC_6
F16  B6A:IO_L9P_CC_LC_6
F17  B6A:IO_L13P_6
F18  BGNDB:GND71  pas
F19  B1A:IO_L20P_LC_1
F20  B1A:IO_L12N_GC_VREF_LC_1
F21  B1A:IO_L12P_GC_LC_1
F22  B1A:IO_L21N_LC_1
F23  B1B:VCCO_14  pas
F24  B1A:IO_L21P_LC_1
F25  B5A:IO_L18N_5
F26  B5A:IO_L16P_5
F27  B5A:IO_L12P_5
F28  BGNDC:GND139  pas
F29  B5B:IO_L3P_ADC5_5
F30  B5A:IO_L15N_5
F31  B5A:IO_L15P_5
F32  B5A:IO_L21P_5
F33  B5B:VCCO_59  pas
F34  B5B:IO_L27N_5
F35  B9A:IO_L10P_9
F36  B9A:IO_L1N_9
F37  B9A:IO_L14P_9
F38  BGNDD:GND183  pas
F39  B9A:IO_L13N_9
F40  B9A:IO_L13P_9
F41  BB:GNDA_1030
F42  BD:RXPPADA_103
G1  BD:RXNPADB_113
G2  BA:AVCCAUXRXB_113
G3  B10A:IO_L16N_10
G4  B10A:IO_L16P_10
G5  BGNDA:GND8  pas
G6  B10A:IO_L2P_10
G7  B10A:IO_L5N_10
G8  BVCCINTA:VCCINT2  pas
G9  B6B:IO_L24P_CC_LC_6
G10  B6B:VCCO_61  pas
G11  B6A:IO_L16P_6
G12  B6A:IO_L10P_6
G13  B6A:IO_L3N_6
G14  B6A:IO_L5P_6
G15  BGNDB:GND50  pas
G16  B1B:IO_L6N_D20_LC_1
G17  B1B:IO_L6P_D21_LC_1
G18  BVCCINTA:VCCINT48  pas
G19  B1A:IO_L20N_VREF_LC_1
G20  B1B:VCCO_13  pas
G21  BD:TDP_0
G22  B1A:IO_L11N_GC_LC_1
G23  B1A:IO_L11P_GC_LC_1
G24  B1A:IO_L19N_LC_1
G25  BGNDC:GND119  pas
G26  B5A:IO_L16N_5
G27  B5A:IO_L12N_VREF_5
G28  BVCCINTC:VCCINT119  pas
G29  B5B:IO_L3N_ADC5_5
G30  B5B:VCCO_56  pas
G31  B5B:IO_L2N_ADC6_5
G32  B5A:IO_L23N_VRP_5
G33  B5A:IO_L23P_VRN_5
G34  B5B:IO_L27P_5
G35  BGNDD:GND171  pas
G36  B9A:IO_L1P_9
G37  B9A:IO_L5N_9
G38  B9B:IO_L22N_9
G39  B9B:IO_L22P_9
G40  B9B:VCCO_99  pas
G41  BA:AVCCAUXRXA_103
G42  BC:RXNPADA_103
H1  BD:RXPPADA_112
H2  BC:GNDA_1120
H3  B10B:IO_L22P_10
H4  B10A:IO_L14N_10
H5  B10A:IO_L14P_10
H6  B10A:IO_L2N_10
H7  B10B:VCCO_105  pas
H8  B10A:IO_L7P_10
H9  B6B:IO_L24N_CC_LC_6
H10  B6A:IO_L14P_6
H11  B6A:IO_L16N_6
H12  BGNDA:GND35  pas
H13  B6A:IO_L3P_6
H14  B6A:IO_L11N_6
H15  B6A:IO_L11P_6
H16  B1B:IO_L8P_D17_CC_LC_1
H17  B1B:VCCO_10  pas
H18  B1B:IO_L2P_D29_LC_1
H19  B1A:IO_L14N_GC_LC_1
H20  B1A:IO_L14P_GC_LC_1
H21  BD:TDN_0
H22  BGNDC:GND98  pas
H23  B1A:IO_L9N_GC_LC_1
H24  B1A:IO_L19P_LC_1
H25  BVCCINTB:VCCINT99  pas
H26  B5A:IO_L22P_5
H27  B5B:VCCO_52  pas
H28  B5A:IO_L14P_5
H29  B5B:IO_L6N_ADC3_5
H30  B5B:IO_L6P_ADC3_5
H31  B5B:IO_L2P_ADC6_5
H32  BGNDD:GND160  pas
H33  B9A:IO_L4N_VREF_9
H34  B9A:IO_L4P_9
H35  BVCCINTC:VCCINT149  pas
H36  B9A:IO_L5P_9
H37  B9B:VCCO_97  pas
H38  B9B:IO_L19N_9
H39  B9A:IO_L19P_9
H40  B9B:IO_L23N_VRP_9
H41  BB:GNDA_1031
H42  BF:VTRXA_103
J1  BD:RXNPADA_112
J2  BA:AVCCAUXRXA_112
J3  B10B:IO_L22N_10
J4  B10B:VCCO_102  pas
J5  B10A:IO_L18P_10
J6  B10A:IO_L8N_CC_LC_10
J7  B10A:IO_L8P_CC_LC_10
J8  B10A:IO_L7N_10
J9  BGNDA:GND24  pas
J10  B6A:IO_L14N_6
J11  B6A:IO_L7N_6
J12  BVCCINTA:VCCINT15  pas
J13  B6B:IO_L19N_6
J14  B6B:VCCO_66  pas
J15  B6B:IO_L21N_6
J16  B1B:IO_L8N_D16_CC_LC_1
J17  B1B:IO_L4P_D25_LC_1
J18  B1B:IO_L2N_D28_LC_1
J19  BGNDB:GND77  pas
J20  B3:IO_L8P_GC_LC_3
J21  B3:IO_L6N_GC_LC_3
J22  B3:IO_L6P_GC_LC_3
J23  B1A:IO_L9P_GC_LC_1
J24  B1B:VCCO_15  pas
J25  B1B:IO_L1N_D30_LC_1
J26  B5A:IO_L22N_5
J27  B5A:IO_L24P_CC_LC_5
J28  B5A:IO_L14N_5
J29  BGNDC:GND145  pas
J30  B5A:IO_L4N_VREF_5
J31  B5A:IO_L4P_5
J32  BVCCINTC:VCCINT141  pas
J33  B9A:IO_L6N_9
J34  B9B:VCCO_94  pas
J35  B9A:IO_L18N_9
J36  B9A:IO_L18P_9
J37  B9A:IO_L17N_9
J38  B9A:IO_L17P_9
J39  BGNDD:GND187  pas
J40  B9B:IO_L23P_VRN_9
J41  BF:VTTXA_103
J42  BE:TXPPADA_103
K1  BF:VTRXA_112
K2  BC:GNDA_1121
K3  B10B:IO_L24N_CC_LC_10
K4  B10B:IO_L24P_CC_LC_10
K5  B10A:IO_L18N_10
K6  BGNDA:GND12  pas
K7  B10A:IO_L12P_10
K8  B10A:IO_L15N_10
K9  BVCCINTA:VCCINT6  pas
K10  B6A:IO_L15N_6
K11  B6B:VCCO_62  pas
K12  B6A:IO_L7P_6
K13  BVCCAUX:VCCAUX6  pas
K14  B6A:IO_L19P_6
K15  B6B:IO_L21P_6
K16  BGNDB:GND56  pas
K17  B1B:IO_L4N_D24_VREF_LC_1
K18  B1A:IO_L18N_VRP_LC_1
K19  BVCCINTB:VCCINT55  pas
K20  B3:IO_L8N_GC_LC_3
K21  B3:VCCO_30  pas
K22  B3:IO_L3N_GC_LC_3
K23  B1A:IO_L17N_CC_LC_1
K24  B1A:IO_L17P_CC_LC_1
K25  B1B:IO_L1P_D31_LC_1
K26  BGNDC:GND124  pas
K27  B5A:IO_L24N_CC_LC_5
K28  B5B:IO_L26P_5
K29  BVCCINTC:VCCINT128  pas
K30  B5B:IO_L7N_ADC2_5
K31  B5B:VCCO_57  pas
K32  B5B:IO_L7P_ADC2_5
K33  B9A:IO_L6P_9
K34  B9A:IO_L16N_9
K35  B9A:IO_L16P_9
K36  BGNDD:GND175  pas
K37  B13A:IO_L2N_13
K38  B13A:IO_L2P_13
K39  B13A:IO_L6N_13
K40  B13A:IO_L6P_13
K41  BB:GNDA_1032
K42  BD:TXNPADA_103
L1  BE:TXPPADA_112
L2  BF:VTTXA_112
L3  BGNDA:GND0  pas
L4  B10B:IO_L29N_10
L5  B10B:IO_L29P_10
L6  BVCCINTA:VCCINT0  pas
L7  B10A:IO_L12N_VREF_10
L8  B10B:VCCO_106  pas
L9  B10A:IO_L15P_10
L10  BVCCAUX:VCCAUX1  pas
L11  B6A:IO_L15P_6
L12  B6A:IO_L17P_6
L13  BGNDA:GND40  pas
L14  BVCCINTA:VCCINT23  pas
L15  BGNDB:GND51  pas
L16  BVCCINTA:VCCINT36  pas
L17  B1B:IO_L24N_LC_1
L18  B1B:VCCO_11  pas
L19  B1A:IO_L18P_VRN_LC_1
L20  B3:IO_L4N_GC_VREF_LC_3
L21  B3:IO_L4P_GC_LC_3
L22  B3:IO_L3P_GC_LC_3
L23  BGNDC:GND104  pas
L24  BVCCINTB:VCCINT91  pas
L25  B1A:IO_L15N_GC_LC_1
L26  BVCCINTC:VCCINT107  pas
L27  B5B:IO_L26N_5
L28  B5B:VCCO_53  pas
L29  B5B:IO_L28P_5
L30  BVCCAUX:VCCAUX19  pas
L31  B5A:IO_L17N_5
L32  B5A:IO_L17P_5
L33  BGNDD:GND164  pas
L34  B9B:IO_L20N_VREF_9
L35  B9B:IO_L20P_9
L36  B9B:IO_L21N_9
L37  B13A:IO_L4N_VREF_13
L38  B13B:VCCO_136  pas
L39  B13A:IO_L1N_13
L40  B13A:IO_L1P_13
L41  BA:AVCCAUXTX_103
L42  BE:TXPPADB_103
M1  BE:TXNPADA_112
M2  BC:GNDA_1122
M3  B10B:IO_L30N_10
M4  B10B:IO_L30P_10
M5  B10B:VCCO_103  pas
M6  B10B:IO_L20N_VREF_10
M7  B10B:IO_L20P_10
M8  B10A:IO_L6N_10
M9  B10A:IO_L6P_10
M10  BGNDA:GND28  pas
M11  B6B:IO_L25P_CC_LC_6
M12  B6A:IO_L17N_6
M13  BVCCINTA:VCCINT19  pas
M14  BGNDA:GND45  pas
M15  BVCCINTA:VCCINT28  pas
M16  BGNDB:GND57  pas
M17  BVCCAUX:VCCAUX11  pas
M18  B1B:IO_L24P_LC_1
M19  B1A:IO_L16P_GC_CC_LC_1
M20  BGNDB:GND83  pas
M21  B3:IO_L2P_GC_VRN_LC_3
M22  B3:IO_L7N_GC_LC_3
M23  B3:IO_L7P_GC_LC_3
M24  B1A:IO_L15P_GC_LC_1
M25  B1B:VCCO_16  pas
M26  B1B:IO_L23N_LC_1
M27  BVCCAUX:VCCAUX17  pas
M28  B5B:IO_L28N_VREF_5
M29  B5B:IO_L30P_5
M30  BGNDD:GND151  pas
M31  BVCCINTC:VCCINT137  pas
M32  B9A:IO_L9N_CC_LC_9
M33  BVCCINTC:VCCINT143  pas
M34  B9A:IO_L9P_CC_LC_9
M35  B9B:VCCO_95  pas
M36  B9B:IO_L21P_9
M37  B13A:IO_L4P_13
M38  B13A:IO_L8N_CC_LC_13
M39  B13A:IO_L8P_CC_LC_13
M40  BGNDD:GND192  pas
M41  BF:VTTXB_103
M42  BE:TXNPADB_103
N1  BE:TXPPADB_112
N2  BA:AVCCAUXTX_112
N3  B10B:IO_L32N_10
N4  B10B:IO_L32P_10
N5  B10B:IO_L28N_VREF_10
N6  B10B:IO_L28P_10
N7  BGNDA:GND17  pas
N8  B10B:IO_L25P_CC_LC_10
N9  B10B:IO_L21N_10
N10  BVCCINTA:VCCINT9  pas
N11  B6B:IO_L25N_CC_LC_6
N12  B6B:VCCO_64  pas
N13  B6B:IO_L29P_6
N14  BVCCAUX:VCCAUX9  pas
N15  BGNDB:GND52  pas
N16  BVCCINTA:VCCINT37  pas
N17  BGNDB:GND65  pas
N18  B1A:IO_L22P_LC_1
N19  B1A:IO_L16N_GC_CC_LC_1
N20  BVCCINTB:VCCINT64  pas
N21  B3:IO_L2N_GC_VRP_LC_3
N22  B3:VCCO_31  pas
N23  B3:IO_L5N_GC_LC_3
N24  BVCCAUX:VCCAUX15  pas
N25  B1B:IO_L23P_LC_1
N26  B1B:IO_L3N_D26_LC_1
N27  BGNDC:GND132  pas
N28  BVCCINTC:VCCINT120  pas
N29  B5B:IO_L30N_5
N30  BVCCINTC:VCCINT133  pas
N31  BGNDD:GND156  pas
N32  B9B:VCCO_92  pas
N33  B9B:IO_L24N_CC_LC_9
N34  B9B:IO_L24P_CC_LC_9
N35  B9B:IO_L27N_9
N36  B9B:IO_L27P_9
N37  BGNDD:GND180  pas
N38  B13A:IO_L7N_13
N39  B13A:IO_L12N_VREF_13
N40  B13A:IO_L12P_13
N41  BB:GNDA_1033
N42  BF:VTRXB_103
P1  BE:TXNPADB_112
P2  BF:VTTXB_112
P3  B14A:IO_L4P_14
P4  BGNDA:GND5  pas
P5  B14A:IO_L3N_14
P6  B14A:IO_L3P_14
P7  BVCCINTA:VCCINT1  pas
P8  B10B:IO_L25N_CC_LC_10
P9  B10B:VCCO_107  pas
P10  B10B:IO_L21P_10
P11  B6B:IO_L31N_6
P12  B6B:IO_L31P_6
P13  B6B:IO_L29N_6
P14  BGNDA:GND46  pas
P15  BVCCINTA:VCCINT29  pas
P16  B10A:IO_L11P_10
P17  BVCCINTA:VCCINT41  pas
P18  B1A:IO_L22N_LC_1
P19  B1B:VCCO_12  pas
P20  B1A:IO_L10P_GC_LC_1
P21  B3:IO_L1N_GC_CC_LC_3
P22  B3:IO_L1P_GC_CC_LC_3
P23  B3:IO_L5P_GC_LC_3
P24  BGNDC:GND112  pas
P25  BVCCINTB:VCCINT100  pas
P26  B1B:IO_L3P_D27_LC_1
P27  B1B:IO_L7N_D18_LC_1
P28  B5B:IO_L32N_5
P29  B5B:VCCO_55  pas
P30  B5B:IO_L32P_5
P31  BVCCAUX:VCCAUX22  pas
P32  B9A:IO_L15N_9
P33  B9A:IO_L15P_9
P34  BGNDD:GND168  pas
P35  B13A:IO_L3N_13
P36  B13A:IO_L5N_13
P37  B13A:IO_L5P_13
P38  B13A:IO_L7P_13
P39  B13B:VCCO_137  pas
P40  B13A:IO_L13N_13
P41  BA:AVCCAUXMGT_103
P42  BD:RXPPADB_103
R1  BF:VTRXB_112
R2  BC:GNDA_1123
R3  B14A:IO_L4N_VREF_14
R4  B14A:IO_L6N_14
R5  B14A:IO_L6P_14
R6  B14B:VCCO_143  pas
R7  B14A:IO_L5P_14
R8  B10B:IO_L26N_10
R9  B10B:IO_L26P_10
R10  B10B:IO_L19N_10
R11  BGNDA:GND32  pas
R12  B10A:IO_L19P_10
R13  B10B:IO_L23N_VRP_10
R14  BVCCINTA:VCCINT24  pas
R15  B10B:IO_L23P_VRN_10
R16  B10B:VCCO_109  pas
R17  B10A:IO_L11N_10
R18  BVCCINTA:VCCINT49  pas
R19  B1A:IO_L10N_GC_LC_1
R20  BVCCINTB:VCCINT65  pas
R21  BGNDB:GND92  pas
R22  BVCCINTB:VCCINT77  pas
R23  BGNDC:GND105  pas
R24  BVCCINTB:VCCINT92  pas
R25  B1B:IO_L5N_D22_LC_1
R26  B1B:VCCO_17  pas
R27  B1B:IO_L7P_D19_LC_1
R28  BVCCINTC:VCCINT121  pas
R29  BGNDC:GND146  pas
R30  BVCCINTC:VCCINT134  pas
R31  BGNDD:GND157  pas
R32  B9B:IO_L25N_CC_LC_9
R33  B9B:IO_L25P_CC_LC_9
R34  BVCCINTC:VCCINT146  pas
R35  B13A:IO_L3P_13
R36  B13B:VCCO_134  pas
R37  B13A:IO_L16N_13
R38  B13A:IO_L11N_13
R39  B13A:IO_L11P_13
R40  B13A:IO_L13P_13
R41  BA:AVCCAUXRXB_103
R42  BD:RXNPADB_103
T1  BD:RXPPADB_112
T2  BA:AVCCAUXMGT_112
T3  B14B:VCCO_140  pas
T4  B14A:IO_L8N_CC_LC_14
T5  B14A:IO_L8P_CC_LC_14
T6  B14A:IO_L7P_14
T7  B14A:IO_L5N_14
T8  BGNDA:GND21  pas
T9  B14A:IO_L2P_14
T10  B14A:IO_L1N_14
T11  B14A:IO_L1P_14
T12  B10B:IO_L31N_10
T13  B10B:VCCO_108  pas
T14  B10B:IO_L27P_10
T15  BVCCINTA:VCCINT30  pas
T16  BGNDB:GND58  pas
T17  BVCCINTA:VCCINT42  pas
T18  BGNDB:GND72  pas
T19  BVCCINTB:VCCINT56  pas
T20  BGNDB:GND84  pas
T21  BVCCINTB:VCCINT71  pas
T22  BGNDC:GND99  pas
T23  BVCCINTB:VCCINT84  pas
T24  BGNDC:GND113  pas
T25  BVCCINTB:VCCINT101  pas
T26  B1B:IO_L5P_D23_LC_1
T27  BVCCINTC:VCCINT114  pas
T28  BGNDC:GND140  pas
T29  BVCCINTC:VCCINT129  pas
T30  BGNDD:GND152  pas
T31  BVCCINTC:VCCINT138  pas
T32  B9B:IO_L29N_9
T33  B9B:VCCO_93  pas
T34  B9B:IO_L29P_9
T35  B13A:IO_L9N_CC_LC_13
T36  B13A:IO_L9P_CC_LC_13
T37  B13A:IO_L16P_13
T38  BGNDD:GND184  pas
T39  B13A:IO_L15N_13
T40  B13A:IO_L15P_13
T41  BB:GNDA_1040
T42  BD:RXPPADA_104
U1  BD:RXNPADB_112
U2  BA:AVCCAUXRXB_112
U3  B14A:IO_L9N_CC_LC_14
U4  B14A:IO_L9P_CC_LC_14
U5  BGNDA:GND9  pas
U6  B14A:IO_L7N_14
U7  B14A:IO_L12N_VREF_14
U8  BVCCINTA:VCCINT3  pas
U9  B14A:IO_L2N_14
U10  B14B:VCCO_146  pas
U11  B14A:IO_L15N_14
U12  BVCCAUX:VCCAUX4  pas
U13  B10B:IO_L31P_10
U14  B10B:IO_L27N_10
U15  BGNDB:GND53  pas
U16  BVCCINTA:VCCINT38  pas
U17  BGNDB:GND66  pas
U18  BVCCINTA:VCCINT50  pas
U19  BGNDB:GND78  pas
U20  BVCCINTB:VCCINT66  pas
U21  BGNDB:GND93  pas
U22  BVCCINTB:VCCINT78  pas
U23  BGNDC:GND106  pas
U24  BVCCINTB:VCCINT93  pas
U25  BGNDC:GND120  pas
U26  BVCCINTC:VCCINT108  pas
U27  BGNDC:GND133  pas
U28  BVCCINTC:VCCINT122  pas
U29  B9B:IO_L26N_9
U30  B9B:VCCO_91  pas
U31  B9B:IO_L32N_9
U32  BVCCAUX:VCCAUX24  pas
U33  B9B:IO_L31N_9
U34  B9B:IO_L31P_9
U35  BGNDD:GND172  pas
U36  B13B:IO_L20N_VREF_13
U37  B13B:IO_L20P_13
U38  B13B:IO_L21N_13
U39  B13B:IO_L21P_13
U40  B13B:VCCO_138  pas
U41  BA:AVCCAUXRXA_104
U42  BC:RXNPADA_104
V1  BD:RXPPADA_111
V2  BC:GNDA_1110
V3  B14A:IO_L14N_14
V4  B14A:IO_L10N_14
V5  B14A:IO_L10P_14
V6  B14A:IO_L16N_14
V7  B14B:VCCO_144  pas
V8  B14A:IO_L12P_14
V9  BVCCAUX:VCCAUX0  pas
V10  B14B:IO_L21N_14
V11  B14A:IO_L15P_14
V12  BGNDA:GND36  pas
V13  B14A:IO_L19P_14
V14  B14A:IO_L11P_14
V15  BVCCINTA:VCCINT31  pas
V16  BGNDB:GND59  pas
V17  BVCCINTA:VCCINT43  pas
V18  BGNDB:GND73  pas
V19  BVCCINTB:VCCINT57  pas
V20  BGNDB:GND85  pas
V21  BVCCINTB:VCCINT72  pas
V22  BGNDC:GND100  pas
V23  BB:CCLK_0
V24  BC:HSWAPEN_0
V25  BC:PROGRAM_B_0
V26  BGNDC:GND125  pas
V27  B9B:VCCO_90  pas
V28  B9B:IO_L26P_9
V29  B9B:IO_L30N_9
V30  B9B:IO_L30P_9
V31  B9B:IO_L32P_9
V32  BGNDD:GND161  pas
V33  B13A:IO_L17P_13
V34  B13A:IO_L19P_13
V35  BVCCINTC:VCCINT150  pas
V36  B13B:IO_L23P_VRN_13
V37  B13B:VCCO_135  pas
V38  B13B:IO_L25N_CC_LC_13
V39  B13B:IO_L25P_CC_LC_13
V40  B13B:IO_L27P_13
V41  BB:GNDA_1041
V42  BF:VTRXA_104
W1  BD:RXNPADA_111
W2  BA:AVCCAUXRXA_111
W3  B14A:IO_L14P_14
W4  B14B:VCCO_141  pas
W5  B14A:IO_L18N_14
W6  B14A:IO_L16P_14
W7  B14B:IO_L20N_VREF_14
W8  B14B:IO_L20P_14
W9  BGNDA:GND25  pas
W10  B14B:IO_L21P_14
W11  B14B:IO_L29N_14
W12  BVCCINTA:VCCINT16  pas
W13  B14B:IO_L19N_14
W14  B14B:VCCO_148  pas
W15  B14A:IO_L11N_14
W16  BVCCINTA:VCCINT39  pas
W17  BGNDB:GND67  pas
W18  BVCCINTA:VCCINT51  pas
W19  BGNDB:GND79  pas
W20  BVCCINTB:VCCINT67  pas
W21  BB:D_IN_0
W22  BVCCINTB:VCCINT79  pas
W23  BB:DONE_0
W24  B0:VCCO_03  pas
W25  BE:VBATT_0
W26  BVCCINTC:VCCINT109  pas
W27  B9B:IO_L28N_VREF_9
W28  B9B:IO_L28P_9
W29  BGNDD:GND147  pas
W30  B13B:IO_L26N_13
W31  B13B:IO_L22P_13
W32  BVCCINTC:VCCINT142  pas
W33  B13A:IO_L17N_13
W34  B13B:VCCO_133  pas
W35  B13B:IO_L29P_13
W36  B13B:IO_L23N_VRP_13
W37  B13B:IO_L31N_13
W38  B13B:IO_L31P_13
W39  BGNDD:GND188  pas
W40  B13B:IO_L27N_13
W41  BF:VTTXA_104
W42  BE:TXPPADA_104
Y1  BF:VTRXA_111
Y2  BC:GNDA_1111
Y3  B14A:IO_L13N_14
Y4  B14A:IO_L13P_14
Y5  B14A:IO_L18P_14
Y6  BGNDA:GND13  pas
Y7  B14B:IO_L26N_14
Y8  B14B:IO_L25N_CC_LC_14
Y9  BVCCINTA:VCCINT7  pas
Y10  B14B:IO_L25P_CC_LC_14
Y11  B14B:VCCO_147  pas
Y12  B14B:IO_L29P_14
Y13  BVCCINTA:VCCINT20  pas
Y14  B14B:IO_L23N_VRP_14
Y15  B14B:IO_L23P_VRN_14
Y16  BGNDB:GND60  pas
Y17  BVCCINTA:VCCINT44  pas
Y18  B16A:IO_L7N_16
Y19  BVCCINTB:VCCINT58  pas
Y20  BB:CS_B_0
Y21  B0:VCCO_01  pas
Y22  BC:INIT_0
Y23  BVCCINTB:VCCINT85  pas
Y24  BC:M2_0
Y25  BVCCINTB:VCCINT102  pas
Y26  BGNDC:GND126  pas
Y27  B13A:IO_L14N_13
Y28  B13A:IO_L14P_13
Y29  BVCCINTC:VCCINT130  pas
Y30  B13B:IO_L26P_13
Y31  B13B:VCCO_132  pas
Y32  B13B:IO_L32P_13
Y33  BVCCAUX:VCCAUX25  pas
Y34  B13B:IO_L19N_13
Y35  B13B:IO_L29N_13
Y36  BGNDD:GND176  pas
Y37  B15A:IO_L3N_15
Y38  B15A:IO_L3P_15
Y39  B15A:IO_L5N_15
Y40  B15A:IO_L5P_15
Y41  BB:GNDA_1042
Y42  BE:TXNPADA_104

## Footprint FF1760 (pad centres in mm)
smd 0.45 x 0.45: A2 -19.5,20.5; A3 -18.5,20.5; A4 -17.5,20.5; A5 -16.5,20.5; A6 -15.5,20.5; A7 -14.5,20.5; A8 -13.5,20.5; A9 -12.5,20.5; A10 -11.5,20.5; A11 -10.5,20.5; A12 -9.5,20.5; A13 -8.5,20.5; A14 -7.5,20.5; A15 -6.5,20.5; A16 -5.5,20.5; A17 -4.5,20.5; A18 -3.5,20.5; A19 -2.5,20.5; A20 -1.5,20.5; A21 -0.5,20.5; A22 0.5,20.5; A23 1.5,20.5; A24 2.5,20.5; A25 3.5,20.5; A26 4.5,20.5; A27 5.5,20.5; A28 6.5,20.5; A29 7.5,20.5; A30 8.5,20.5; A31 9.5,20.5; A32 10.5,20.5; A33 11.5,20.5; A34 12.5,20.5; A35 13.5,20.5; A36 14.5,20.5; A37 15.5,20.5; A38 16.5,20.5; A39 17.5,20.5; A40 18.5,20.5; A41 19.5,20.5; AA1 -20.5,0.5; AA2 -19.5,0.5; AA3 -18.5,0.5; AA4 -17.5,0.5; AA5 -16.5,0.5; AA6 -15.5,0.5; AA7 -14.5,0.5; AA8 -13.5,0.5; AA9 -12.5,0.5; AA10 -11.5,0.5; AA11 -10.5,0.5; AA12 -9.5,0.5; AA13 -8.5,0.5; AA14 -7.5,0.5; AA15 -6.5,0.5; AA16 -5.5,0.5; AA17 -4.5,0.5; AA18 -3.5,0.5; AA19 -2.5,0.5; AA20 -1.5,0.5; AA21 -0.5,0.5; AA22 0.5,0.5; AA23 1.5,0.5; AA24 2.5,0.5; AA25 3.5,0.5; AA26 4.5,0.5; AA27 5.5,0.5; AA28 6.5,0.5; AA29 7.5,0.5; AA30 8.5,0.5; AA31 9.5,0.5; AA32 10.5,0.5; AA33 11.5,0.5; AA34 12.5,0.5; AA35 13.5,0.5; AA36 14.5,0.5; AA37 15.5,0.5; AA38 16.5,0.5; AA39 17.5,0.5; AA40 18.5,0.5; AA41 19.5,0.5; AA42 20.5,0.5; AB1 -20.5,-0.5; AB2 -19.5,-0.5; AB3 -18.5,-0.5; AB4 -17.5,-0.5; AB5 -16.5,-0.5; AB6 -15.5,-0.5; AB7 -14.5,-0.5; AB8 -13.5,-0.5; AB9 -12.5,-0.5; AB10 -11.5,-0.5; AB11 -10.5,-0.5; AB12 -9.5,-0.5; AB13 -8.5,-0.5; AB14 -7.5,-0.5; AB15 -6.5,-0.5; AB16 -5.5,-0.5; AB17 -4.5,-0.5; AB18 -3.5,-0.5; AB19 -2.5,-0.5; AB20 -1.5,-0.5; AB21 -0.5,-0.5; AB22 0.5,-0.5; AB23 1.5,-0.5; AB24 2.5,-0.5; AB25 3.5,-0.5; AB26 4.5,-0.5; AB27 5.5,-0.5; AB28 6.5,-0.5; AB29 7.5,-0.5; AB30 8.5,-0.5; AB31 9.5,-0.5; AB32 10.5,-0.5; AB33 11.5,-0.5; AB34 12.5,-0.5; AB35 13.5,-0.5; AB36 14.5,-0.5; AB37 15.5,-0.5; AB38 16.5,-0.5; AB39 17.5,-0.5; AB40 18.5,-0.5; AB41 19.5,-0.5; AB42 20.5,-0.5; AC1 -20.5,-1.5; AC2 -19.5,-1.5; AC3 -18.5,-1.5; AC4 -17.5,-1.5; AC5 -16.5,-1.5; AC6 -15.5,-1.5; AC7 -14.5,-1.5; AC8 -13.5,-1.5; AC9 -12.5,-1.5; AC10 -11.5,-1.5; AC11 -10.5,-1.5; AC12 -9.5,-1.5; AC13 -8.5,-1.5; AC14 -7.5,-1.5; AC15 -6.5,-1.5; AC16 -5.5,-1.5; AC17 -4.5,-1.5; AC18 -3.5,-1.5; AC19 -2.5,-1.5; AC20 -1.5,-1.5; AC21 -0.5,-1.5; AC22 0.5,-1.5; AC23 1.5,-1.5; AC24 2.5,-1.5; AC25 3.5,-1.5; AC26 4.5,-1.5; AC27 5.5,-1.5; AC28 6.5,-1.5; AC29 7.5,-1.5; AC30 8.5,-1.5; AC31 9.5,-1.5; AC32 10.5,-1.5; AC33 11.5,-1.5; AC34 12.5,-1.5; AC35 13.5,-1.5; AC36 14.5,-1.5; AC37 15.5,-1.5; AC38 16.5,-1.5; AC39 17.5,-1.5; AC40 18.5,-1.5; AC41 19.5,-1.5; AC42 20.5,-1.5; AD1 -20.5,-2.5; AD2 -19.5,-2.5; AD3 -18.5,-2.5; AD4 -17.5,-2.5; AD5 -16.5,-2.5; AD6 -15.5,-2.5; AD7 -14.5,-2.5; AD8 -13.5,-2.5; AD9 -12.5,-2.5; AD10 -11.5,-2.5; AD11 -10.5,-2.5; AD12 -9.5,-2.5; AD13 -8.5,-2.5; AD14 -7.5,-2.5; AD15 -6.5,-2.5; AD16 -5.5,-2.5; AD17 -4.5,-2.5; AD18 -3.5,-2.5; AD19 -2.5,-2.5; AD20 -1.5,-2.5; AD21 -0.5,-2.5; AD22 0.5,-2.5; AD23 1.5,-2.5; AD24 2.5,-2.5; AD25 3.5,-2.5; AD26 4.5,-2.5; AD27 5.5,-2.5; AD28 6.5,-2.5; AD29 7.5,-2.5; AD30 8.5,-2.5; AD31 9.5,-2.5; AD32 10.5,-2.5; AD33 11.5,-2.5; AD34 12.5,-2.5; AD35 13.5,-2.5; AD36 14.5,-2.5; AD37 15.5,-2.5; AD38 16.5,-2.5; AD39 17.5,-2.5; AD40 18.5,-2.5; AD41 19.5,-2.5; AD42 20.5,-2.5; AE1 -20.5,-3.5; AE2 -19.5,-3.5; AE3 -18.5,-3.5; AE4 -17.5,-3.5; AE5 -16.5,-3.5; AE6 -15.5,-3.5; AE7 -14.5,-3.5; AE8 -13.5,-3.5; AE9 -12.5,-3.5; AE10 -11.5,-3.5; AE11 -10.5,-3.5; AE12 -9.5,-3.5; AE13 -8.5,-3.5; AE14 -7.5,-3.5; AE15 -6.5,-3.5; AE16 -5.5,-3.5; AE17 -4.5,-3.5; AE18 -3.5,-3.5; AE19 -2.5,-3.5; AE20 -1.5,-3.5; AE21 -0.5,-3.5; AE22 0.5,-3.5; AE23 1.5,-3.5; AE24 2.5,-3.5; AE25 3.5,-3.5; AE26 4.5,-3.5; AE27 5.5,-3.5; AE28 6.5,-3.5; AE29 7.5,-3.5; AE30 8.5,-3.5; AE31 9.5,-3.5; AE32 10.5,-3.5; AE33 11.5,-3.5; AE34 12.5,-3.5; AE35 13.5,-3.5; AE36 14.5,-3.5; AE37 15.5,-3.5; AE38 16.5,-3.5; AE39 17.5,-3.5; AE40 18.5,-3.5; AE41 19.5,-3.5; AE42 20.5,-3.5; AF1 -20.5,-4.5; AF2 -19.5,-4.5; AF3 -18.5,-4.5; AF4 -17.5,-4.5; AF5 -16.5,-4.5; AF6 -15.5,-4.5; AF7 -14.5,-4.5; AF8 -13.5,-4.5; AF9 -12.5,-4.5; AF10 -11.5,-4.5; AF11 -10.5,-4.5; AF12 -9.5,-4.5; AF13 -8.5,-4.5; AF14 -7.5,-4.5; AF15 -6.5,-4.5; AF16 -5.5,-4.5; AF17 -4.5,-4.5; AF18 -3.5,-4.5; AF19 -2.5,-4.5; AF20 -1.5,-4.5; AF21 -0.5,-4.5; AF22 0.5,-4.5; AF23 1.5,-4.5; AF24 2.5,-4.5; AF25 3.5,-4.5; AF26 4.5,-4.5; AF27 5.5,-4.5; AF28 6.5,-4.5; AF29 7.5,-4.5; AF30 8.5,-4.5; AF31 9.5,-4.5; AF32 10.5,-4.5; AF33 11.5,-4.5; AF34 12.5,-4.5; AF35 13.5,-4.5; AF36 14.5,-4.5; AF37 15.5,-4.5; AF38 16.5,-4.5; AF39 17.5,-4.5; AF40 18.5,-4.5; AF41 19.5,-4.5; AF42 20.5,-4.5; AG1 -20.5,-5.5; AG2 -19.5,-5.5; AG3 -18.5,-5.5; AG4 -17.5,-5.5; AG5 -16.5,-5.5; AG6 -15.5,-5.5; AG7 -14.5,-5.5; AG8 -13.5,-5.5; AG9 -12.5,-5.5; AG10 -11.5,-5.5; AG11 -10.5,-5.5; AG12 -9.5,-5.5; AG13 -8.5,-5.5; AG14 -7.5,-5.5; AG15 -6.5,-5.5; AG16 -5.5,-5.5; AG17 -4.5,-5.5; AG18 -3.5,-5.5; AG19 -2.5,-5.5; AG20 -1.5,-5.5; AG21 -0.5,-5.5; AG22 0.5,-5.5; AG23 1.5,-5.5; AG24 2.5,-5.5; AG25 3.5,-5.5; AG26 4.5,-5.5; AG27 5.5,-5.5; AG28 6.5,-5.5; AG29 7.5,-5.5; AG30 8.5,-5.5; AG31 9.5,-5.5; AG32 10.5,-5.5; AG33 11.5,-5.5; AG34 12.5,-5.5; AG35 13.5,-5.5; AG36 14.5,-5.5; AG37 15.5,-5.5; AG38 16.5,-5.5; AG39 17.5,-5.5; AG40 18.5,-5.5; AG41 19.5,-5.5; AG42 20.5,-5.5; AH1 -20.5,-6.5; AH2 -19.5,-6.5; AH3 -18.5,-6.5; AH4 -17.5,-6.5; AH5 -16.5,-6.5; AH6 -15.5,-6.5; AH7 -14.5,-6.5; AH8 -13.5,-6.5; AH9 -12.5,-6.5; AH10 -11.5,-6.5; AH11 -10.5,-6.5; AH12 -9.5,-6.5; AH13 -8.5,-6.5; AH14 -7.5,-6.5; AH15 -6.5,-6.5; AH16 -5.5,-6.5; AH17 -4.5,-6.5; AH18 -3.5,-6.5; AH19 -2.5,-6.5; AH20 -1.5,-6.5; AH21 -0.5,-6.5; AH22 0.5,-6.5; AH23 1.5,-6.5; AH24 2.5,-6.5; AH25 3.5,-6.5; AH26 4.5,-6.5; AH27 5.5,-6.5; AH28 6.5,-6.5; AH29 7.5,-6.5; AH30 8.5,-6.5; AH31 9.5,-6.5; AH32 10.5,-6.5; AH33 11.5,-6.5; AH34 12.5,-6.5; AH35 13.5,-6.5; AH36 14.5,-6.5; AH37 15.5,-6.5; AH38 16.5,-6.5; AH39 17.5,-6.5; AH40 18.5,-6.5; AH41 19.5,-6.5; AH42 20.5,-6.5; AJ1 -20.5,-7.5; AJ2 -19.5,-7.5; AJ3 -18.5,-7.5; AJ4 -17.5,-7.5; AJ5 -16.5,-7.5; AJ6 -15.5,-7.5; AJ7 -14.5,-7.5; AJ8 -13.5,-7.5; AJ9 -12.5,-7.5; AJ10 -11.5,-7.5; AJ11 -10.5,-7.5; AJ12 -9.5,-7.5; AJ13 -8.5,-7.5; AJ14 -7.5,-7.5; AJ15 -6.5,-7.5; AJ16 -5.5,-7.5; AJ17 -4.5,-7.5; AJ18 -3.5,-7.5; AJ19 -2.5,-7.5; AJ20 -1.5,-7.5; AJ21 -0.5,-7.5; AJ22 0.5,-7.5; AJ23 1.5,-7.5; AJ24 2.5,-7.5; AJ25 3.5,-7.5; AJ26 4.5,-7.5; AJ27 5.5,-7.5; AJ28 6.5,-7.5; AJ29 7.5,-7.5; AJ30 8.5,-7.5; AJ31 9.5,-7.5; AJ32 10.5,-7.5; AJ33 11.5,-7.5; AJ34 12.5,-7.5; AJ35 13.5,-7.5; AJ36 14.5,-7.5; AJ37 15.5,-7.5; AJ38 16.5,-7.5; AJ39 17.5,-7.5; AJ40 18.5,-7.5; AJ41 19.5,-7.5; AJ42 20.5,-7.5; AK1 -20.5,-8.5; AK2 -19.5,-8.5; AK3 -18.5,-8.5; AK4 -17.5,-8.5; AK5 -16.5,-8.5; AK6 -15.5,-8.5; AK7 -14.5,-8.5; AK8 -13.5,-8.5; AK9 -12.5,-8.5; AK10 -11.5,-8.5; AK11 -10.5,-8.5; AK12 -9.5,-8.5; AK13 -8.5,-8.5; AK14 -7.5,-8.5; AK15 -6.5,-8.5; AK16 -5.5,-8.5; AK17 -4.5,-8.5; AK18 -3.5,-8.5; AK19 -2.5,-8.5; AK20 -1.5,-8.5; AK21 -0.5,-8.5; AK22 0.5,-8.5; AK23 1.5,-8.5; AK24 2.5,-8.5; AK25 3.5,-8.5; AK26 4.5,-8.5; AK27 5.5,-8.5; AK28 6.5,-8.5; AK29 7.5,-8.5; AK30 8.5,-8.5; AK31 9.5,-8.5; AK32 10.5,-8.5; AK33 11.5,-8.5; AK34 12.5,-8.5; AK35 13.5,-8.5; AK36 14.5,-8.5; AK37 15.5,-8.5; AK38 16.5,-8.5; AK39 17.5,-8.5; AK40 18.5,-8.5; AK41 19.5,-8.5; AK42 20.5,-8.5; AL1 -20.5,-9.5; AL2 -19.5,-9.5; AL3 -18.5,-9.5; AL4 -17.5,-9.5; AL5 -16.5,-9.5; AL6 -15.5,-9.5; AL7 -14.5,-9.5; AL8 -13.5,-9.5; AL9 -12.5,-9.5; AL10 -11.5,-9.5; AL11 -10.5,-9.5; AL12 -9.5,-9.5; AL13 -8.5,-9.5; AL14 -7.5,-9.5; AL15 -6.5,-9.5; AL16 -5.5,-9.5; AL17 -4.5,-9.5; AL18 -3.5,-9.5; AL19 -2.5,-9.5; AL20 -1.5,-9.5; AL21 -0.5,-9.5; AL22 0.5,-9.5; AL23 1.5,-9.5; AL24 2.5,-9.5; AL25 3.5,-9.5; AL26 4.5,-9.5; AL27 5.5,-9.5; AL28 6.5,-9.5; AL29 7.5,-9.5; AL30 8.5,-9.5; AL31 9.5,-9.5; AL32 10.5,-9.5; AL33 11.5,-9.5; AL34 12.5,-9.5; AL35 13.5,-9.5; AL36 14.5,-9.5; AL37 15.5,-9.5; AL38 16.5,-9.5; AL39 17.5,-9.5; AL40 18.5,-9.5; AL41 19.5,-9.5; AL42 20.5,-9.5; AM1 -20.5,-10.5; AM2 -19.5,-10.5; AM3 -18.5,-10.5; AM4 -17.5,-10.5; AM5 -16.5,-10.5; AM6 -15.5,-10.5; AM7 -14.5,-10.5; AM8 -13.5,-10.5; AM9 -12.5,-10.5; AM10 -11.5,-10.5; AM11 -10.5,-10.5; AM12 -9.5,-10.5; AM13 -8.5,-10.5; AM14 -7.5,-10.5; AM15 -6.5,-10.5; AM16 -5.5,-10.5; AM17 -4.5,-10.5; AM18 -3.5,-10.5; AM19 -2.5,-10.5; AM20 -1.5,-10.5; AM21 -0.5,-10.5; AM22 0.5,-10.5; AM23 1.5,-10.5; AM24 2.5,-10.5; AM25 3.5,-10.5; AM26 4.5,-10.5; AM27 5.5,-10.5; AM28 6.5,-10.5; AM29 7.5,-10.5; AM30 8.5,-10.5; AM31 9.5,-10.5; AM32 10.5,-10.5; AM33 11.5,-10.5; AM34 12.5,-10.5; AM35 13.5,-10.5; AM36 14.5,-10.5; AM37 15.5,-10.5; AM38 16.5,-10.5; AM39 17.5,-10.5; AM40 18.5,-10.5; AM41 19.5,-10.5; AM42 20.5,-10.5; AN1 -20.5,-11.5; AN2 -19.5,-11.5; AN3 -18.5,-11.5; AN4 -17.5,-11.5; AN5 -16.5,-11.5; AN6 -15.5,-11.5; AN7 -14.5,-11.5; AN8 -13.5,-11.5; AN9 -12.5,-11.5; AN10 -11.5,-11.5; AN11 -10.5,-11.5; AN12 -9.5,-11.5; AN13 -8.5,-11.5; AN14 -7.5,-11.5; AN15 -6.5,-11.5; AN16 -5.5,-11.5; AN17 -4.5,-11.5; AN18 -3.5,-11.5; AN19 -2.5,-11.5; AN20 -1.5,-11.5; AN21 -0.5,-11.5; AN22 0.5,-11.5; AN23 1.5,-11.5; AN24 2.5,-11.5; AN25 3.5,-11.5; AN26 4.5,-11.5; AN27 5.5,-11.5; AN28 6.5,-11.5; AN29 7.5,-11.5; AN30 8.5,-11.5; AN31 9.5,-11.5; AN32 10.5,-11.5; AN33 11.5,-11.5; AN34 12.5,-11.5; AN35 13.5,-11.5; AN36 14.5,-11.5; AN37 15.5,-11.5; AN38 16.5,-11.5; AN39 17.5,-11.5; AN40 18.5,-11.5; AN41 19.5,-11.5; AN42 20.5,-11.5; AP1 -20.5,-12.5; AP2 -19.5,-12.5; AP3 -18.5,-12.5; AP4 -17.5,-12.5; AP5 -16.5,-12.5; AP6 -15.5,-12.5; AP7 -14.5,-12.5; AP8 -13.5,-12.5; AP9 -12.5,-12.5; AP10 -11.5,-12.5; AP11 -10.5,-12.5; AP12 -9.5,-12.5; AP13 -8.5,-12.5; AP14 -7.5,-12.5; AP15 -6.5,-12.5; AP16 -5.5,-12.5; AP17 -4.5,-12.5; AP18 -3.5,-12.5; AP19 -2.5,-12.5; AP20 -1.5,-12.5; AP21 -0.5,-12.5; AP22 0.5,-12.5; AP23 1.5,-12.5; AP24 2.5,-12.5; AP25 3.5,-12.5; AP26 4.5,-12.5; AP27 5.5,-12.5; AP28 6.5,-12.5; AP29 7.5,-12.5; AP30 8.5,-12.5; AP31 9.5,-12.5; AP32 10.5,-12.5; AP33 11.5,-12.5; AP34 12.5,-12.5; AP35 13.5,-12.5; AP36 14.5,-12.5; AP37 15.5,-12.5; AP38 16.5,-12.5; AP39 17.5,-12.5; AP40 18.5,-12.5; AP41 19.5,-12.5; AP42 20.5,-12.5; AR1 -20.5,-13.5; AR2 -19.5,-13.5; AR3 -18.5,-13.5; AR4 -17.5,-13.5; AR5 -16.5,-13.5; AR6 -15.5,-13.5; AR7 -14.5,-13.5; AR8 -13.5,-13.5; AR9 -12.5,-13.5; AR10 -11.5,-13.5; AR11 -10.5,-13.5; AR12 -9.5,-13.5; AR13 -8.5,-13.5; AR14 -7.5,-13.5; AR15 -6.5,-13.5; AR16 -5.5,-13.5; AR17 -4.5,-13.5; AR18 -3.5,-13.5; AR19 -2.5,-13.5; AR20 -1.5,-13.5; AR21 -0.5,-13.5; AR22 0.5,-13.5; AR23 1.5,-13.5; AR24 2.5,-13.5; AR25 3.5,-13.5; AR26 4.5,-13.5; AR27 5.5,-13.5; AR28 6.5,-13.5; AR29 7.5,-13.5; AR30 8.5,-13.5; AR31 9.5,-13.5; AR32 10.5,-13.5; AR33 11.5,-13.5; AR34 12.5,-13.5; AR35 13.5,-13.5; AR36 14.5,-13.5; AR37 15.5,-13.5; AR38 16.5,-13.5; AR39 17.5,-13.5; AR40 18.5,-13.5; AR41 19.5,-13.5; AR42 20.5,-13.5; AT1 -20.5,-14.5; AT2 -19.5,-14.5; AT3 -18.5,-14.5; AT4 -17.5,-14.5; AT5 -16.5,-14.5; AT6 -15.5,-14.5; AT7 -14.5,-14.5; AT8 -13.5,-14.5; AT9 -12.5,-14.5; AT10 -11.5,-14.5; AT11 -10.5,-14.5; AT12 -9.5,-14.5; AT13 -8.5,-14.5; AT14 -7.5,-14.5; AT15 -6.5,-14.5; AT16 -5.5,-14.5; AT17 -4.5,-14.5; AT18 -3.5,-14.5; AT19 -2.5,-14.5; AT20 -1.5,-14.5; AT21 -0.5,-14.5; AT22 0.5,-14.5; AT23 1.5,-14.5; AT24 2.5,-14.5; AT25 3.5,-14.5; AT26 4.5,-14.5; AT27 5.5,-14.5; AT28 6.5,-14.5; AT29 7.5,-14.5; AT30 8.5,-14.5; AT31 9.5,-14.5; AT32 10.5,-14.5; AT33 11.5,-14.5; AT34 12.5,-14.5; AT35 13.5,-14.5; AT36 14.5,-14.5; AT37 15.5,-14.5; AT38 16.5,-14.5; AT39 17.5,-14.5; AT40 18.5,-14.5; AT41 19.5,-14.5; AT42 20.5,-14.5; AU1 -20.5,-15.5; AU2 -19.5,-15.5; AU3 -18.5,-15.5; AU4 -17.5,-15.5; AU5 -16.5,-15.5; AU6 -15.5,-15.5; AU7 -14.5,-15.5; AU8 -13.5,-15.5; AU9 -12.5,-15.5; AU10 -11.5,-15.5; AU11 -10.5,-15.5; AU12 -9.5,-15.5; AU13 -8.5,-15.5; AU14 -7.5,-15.5; AU15 -6.5,-15.5; AU16 -5.5,-15.5; AU17 -4.5,-15.5; AU18 -3.5,-15.5; AU19 -2.5,-15.5; AU20 -1.5,-15.5; AU21 -0.5,-15.5; AU22 0.5,-15.5; AU23 1.5,-15.5; AU24 2.5,-15.5; AU25 3.5,-15.5; AU26 4.5,-15.5; AU27 5.5,-15.5; AU28 6.5,-15.5; AU29 7.5,-15.5; AU30 8.5,-15.5; AU31 9.5,-15.5; AU32 10.5,-15.5; AU33 11.5,-15.5; AU34 12.5,-15.5; AU35 13.5,-15.5; AU36 14.5,-15.5; AU37 15.5,-15.5; AU38 16.5,-15.5; AU39 17.5,-15.5; AU40 18.5,-15.5; AU41 19.5,-15.5; AU42 20.5,-15.5; AV1 -20.5,-16.5; AV2 -19.5,-16.5; AV3 -18.5,-16.5; AV4 -17.5,-16.5; AV5 -16.5,-16.5; AV6 -15.5,-16.5; AV7 -14.5,-16.5; AV8 -13.5,-16.5; AV9 -12.5,-16.5; AV10 -11.5,-16.5; AV11 -10.5,-16.5; AV12 -9.5,-16.5; AV13 -8.5,-16.5; AV14 -7.5,-16.5; AV15 -6.5,-16.5; AV16 -5.5,-16.5; AV17 -4.5,-16.5; AV18 -3.5,-16.5; AV19 -2.5,-16.5; AV20 -1.5,-16.5; AV21 -0.5,-16.5; AV22 0.5,-16.5; AV23 1.5,-16.5; AV24 2.5,-16.5; AV25 3.5,-16.5; AV26 4.5,-16.5; AV27 5.5,-16.5; AV28 6.5,-16.5; AV29 7.5,-16.5; AV30 8.5,-16.5; AV31 9.5,-16.5; AV32 10.5,-16.5; AV33 11.5,-16.5; AV34 12.5,-16.5; AV35 13.5,-16.5; AV36 14.5,-16.5; AV37 15.5,-16.5; AV38 16.5,-16.5; AV39 17.5,-16.5; AV40 18.5,-16.5; AV41 19.5,-16.5; AV42 20.5,-16.5; AW1 -20.5,-17.5; AW2 -19.5,-17.5; AW3 -18.5,-17.5; AW4 -17.5,-17.5; AW5 -16.5,-17.5; AW6 -15.5,-17.5; AW7 -14.5,-17.5; AW8 -13.5,-17.5; AW9 -12.5,-17.5; AW10 -11.5,-17.5; AW11 -10.5,-17.5; AW12 -9.5,-17.5; AW13 -8.5,-17.5; AW14 -7.5,-17.5; AW15 -6.5,-17.5; AW16 -5.5,-17.5; AW17 -4.5,-17.5; AW18 -3.5,-17.5; AW19 -2.5,-17.5; AW20 -1.5,-17.5; AW21 -0.5,-17.5; AW22 0.5,-17.5; AW23 1.5,-17.5; AW24 2.5,-17.5; AW25 3.5,-17.5; AW26 4.5,-17.5; AW27 5.5,-17.5; AW28 6.5,-17.5; AW29 7.5,-17.5; AW30 8.5,-17.5; AW31 9.5,-17.5; AW32 10.5,-17.5; AW33 11.5,-17.5; AW34 12.5,-17.5; AW35 13.5,-17.5; AW36 14.5,-17.5; AW37 15.5,-17.5; AW38 16.5,-17.5; AW39 17.5,-17.5; AW40 18.5,-17.5; AW41 19.5,-17.5; AW42 20.5,-17.5; AY1 -20.5,-18.5; AY2 -19.5,-18.5; AY3 -18.5,-18.5; AY4 -17.5,-18.5; AY5 -16.5,-18.5; AY6 -15.5,-18.5; AY7 -14.5,-18.5; AY8 -13.5,-18.5; AY9 -12.5,-18.5; AY10 -11.5,-18.5; AY11 -10.5,-18.5; AY12 -9.5,-18.5; AY13 -8.5,-18.5; AY14 -7.5,-18.5; AY15 -6.5,-18.5; AY16 -5.5,-18.5; AY17 -4.5,-18.5; AY18 -3.5,-18.5; AY19 -2.5,-18.5; AY20 -1.5,-18.5; AY21 -0.5,-18.5; AY22 0.5,-18.5; AY23 1.5,-18.5; AY24 2.5,-18.5; AY25 3.5,-18.5; AY26 4.5,-18.5; AY27 5.5,-18.5; AY28 6.5,-18.5; AY29 7.5,-18.5; AY30 8.5,-18.5; AY31 9.5,-18.5; AY32 10.5,-18.5; AY33 11.5,-18.5; AY34 12.5,-18.5; AY35 13.5,-18.5; AY36 14.5,-18.5; AY37 15.5,-18.5; AY38 16.5,-18.5; AY39 17.5,-18.5; AY40 18.5,-18.5; AY41 19.5,-18.5; AY42 20.5,-18.5; B1 -20.5,19.5; B2 -19.5,19.5; B3 -18.5,19.5; B4 -17.5,19.5; B5 -16.5,19.5; B6 -15.5,19.5; B7 -14.5,19.5; B8 -13.5,19.5; B9 -12.5,19.5; B10 -11.5,19.5; B11 -10.5,19.5; B12 -9.5,19.5; B13 -8.5,19.5; B14 -7.5,19.5; B15 -6.5,19.5; B16 -5.5,19.5; B17 -4.5,19.5; B18 -3.5,19.5; B19 -2.5,19.5; B20 -1.5,19.5; B21 -0.5,19.5; B22 0.5,19.5; B23 1.5,19.5; B24 2.5,19.5; B25 3.5,19.5; B26 4.5,19.5; B27 5.5,19.5; B28 6.5,19.5; B29 7.5,19.5; B30 8.5,19.5; B31 9.5,19.5; B32 10.5,19.5; B33 11.5,19.5; B34 12.5,19.5; B35 13.5,19.5; B36 14.5,19.5; B37 15.5,19.5; B38 16.5,19.5; B39 17.5,19.5; B40 18.5,19.5; B41 19.5,19.5; B42 20.5,19.5; BA1 -20.5,-19.5; BA2 -19.5,-19.5; BA3 -18.5,-19.5; BA4 -17.5,-19.5; BA5 -16.5,-19.5; BA6 -15.5,-19.5; BA7 -14.5,-19.5; BA8 -13.5,-19.5; BA9 -12.5,-19.5; BA10 -11.5,-19.5; BA11 -10.5,-19.5; BA12 -9.5,-19.5; BA13 -8.5,-19.5; BA14 -7.5,-19.5; BA15 -6.5,-19.5; BA16 -5.5,-19.5; BA17 -4.5,-19.5; BA18 -3.5,-19.5; BA19 -2.5,-19.5; BA20 -1.5,-19.5; BA21 -0.5,-19.5; BA22 0.5,-19.5; BA23 1.5,-19.5; BA24 2.5,-19.5; BA25 3.5,-19.5; BA26 4.5,-19.5; BA27 5.5,-19.5; BA28 6.5,-19.5; BA29 7.5,-19.5; BA30 8.5,-19.5; BA31 9.5,-19.5; BA32 10.5,-19.5; BA33 11.5,-19.5; BA34 12.5,-19.5; BA35 13.5,-19.5; BA36 14.5,-19.5; BA37 15.5,-19.5; BA38 16.5,-19.5; BA39 17.5,-19.5; BA40 18.5,-19.5; BA41 19.5,-19.5; BA42 20.5,-19.5; BB2 -19.5,-20.5; BB3 -18.5,-20.5; BB4 -17.5,-20.5; BB5 -16.5,-20.5; BB6 -15.5,-20.5; BB7 -14.5,-20.5; BB8 -13.5,-20.5; BB9 -12.5,-20.5; BB10 -11.5,-20.5; BB11 -10.5,-20.5; BB12 -9.5,-20.5; BB13 -8.5,-20.5; BB14 -7.5,-20.5; BB15 -6.5,-20.5; BB16 -5.5,-20.5; BB17 -4.5,-20.5; BB18 -3.5,-20.5; BB19 -2.5,-20.5; BB20 -1.5,-20.5; BB21 -0.5,-20.5; BB22 0.5,-20.5; BB23 1.5,-20.5; BB24 2.5,-20.5; BB25 3.5,-20.5; BB26 4.5,-20.5; BB27 5.5,-20.5; BB28 6.5,-20.5; BB29 7.5,-20.5; BB30 8.5,-20.5; BB31 9.5,-20.5; BB32 10.5,-20.5; BB33 11.5,-20.5; BB34 12.5,-20.5; BB35 13.5,-20.5; BB36 14.5,-20.5; BB37 15.5,-20.5; BB38 16.5,-20.5; BB39 17.5,-20.5; BB40 18.5,-20.5; BB41 19.5,-20.5; C1 -20.5,18.5; C2 -19.5,18.5; C3 -18.5,18.5; C4 -17.5,18.5; C5 -16.5,18.5; C6 -15.5,18.5; C7 -14.5,18.5; C8 -13.5,18.5; C9 -12.5,18.5; C10 -11.5,18.5; C11 -10.5,18.5; C12 -9.5,18.5; C13 -8.5,18.5; C14 -7.5,18.5; C15 -6.5,18.5; C16 -5.5,18.5; C17 -4.5,18.5; C18 -3.5,18.5; C19 -2.5,18.5; C20 -1.5,18.5; C21 -0.5,18.5; C22 0.5,18.5; C23 1.5,18.5; C24 2.5,18.5; C25 3.5,18.5; C26 4.5,18.5; C27 5.5,18.5; C28 6.5,18.5; C29 7.5,18.5; C30 8.5,18.5; C31 9.5,18.5; C32 10.5,18.5; C33 11.5,18.5; C34 12.5,18.5; C35 13.5,18.5; C36 14.5,18.5; C37 15.5,18.5; C38 16.5,18.5; C39 17.5,18.5; C40 18.5,18.5; C41 19.5,18.5; C42 20.5,18.5; D1 -20.5,17.5; D2 -19.5,17.5; D3 -18.5,17.5; D4 -17.5,17.5; D5 -16.5,17.5; D6 -15.5,17.5; D7 -14.5,17.5; D8 -13.5,17.5; D9 -12.5,17.5; D10 -11.5,17.5; D11 -10.5,17.5; D12 -9.5,17.5; D13 -8.5,17.5; D14 -7.5,17.5; D15 -6.5,17.5; D16 -5.5,17.5; D17 -4.5,17.5; D18 -3.5,17.5; D19 -2.5,17.5; D20 -1.5,17.5; D21 -0.5,17.5; D22 0.5,17.5; D23 1.5,17.5; D24 2.5,17.5; D25 3.5,17.5; D26 4.5,17.5; D27 5.5,17.5; D28 6.5,17.5; D29 7.5,17.5; D30 8.5,17.5; D31 9.5,17.5; D32 10.5,17.5; D33 11.5,17.5; D34 12.5,17.5; D35 13.5,17.5; D36 14.5,17.5; D37 15.5,17.5; D38 16.5,17.5; D39 17.5,17.5; D40 18.5,17.5; D41 19.5,17.5; D42 20.5,17.5; E1 -20.5,16.5; E2 -19.5,16.5; E3 -18.5,16.5; E4 -17.5,16.5; E5 -16.5,16.5; E6 -15.5,16.5; E7 -14.5,16.5; E8 -13.5,16.5; E9 -12.5,16.5; E10 -11.5,16.5; E11 -10.5,16.5; E12 -9.5,16.5; E13 -8.5,16.5; E14 -7.5,16.5; E15 -6.5,16.5; E16 -5.5,16.5; E17 -4.5,16.5; E18 -3.5,16.5; E19 -2.5,16.5; E20 -1.5,16.5; E21 -0.5,16.5; E22 0.5,16.5; E23 1.5,16.5; E24 2.5,16.5; E25 3.5,16.5; E26 4.5,16.5; E27 5.5,16.5; E28 6.5,16.5; E29 7.5,16.5; E30 8.5,16.5; E31 9.5,16.5; E32 10.5,16.5; E33 11.5,16.5; E34 12.5,16.5; E35 13.5,16.5; E36 14.5,16.5; E37 15.5,16.5; E38 16.5,16.5; E39 17.5,16.5; E40 18.5,16.5; E41 19.5,16.5; E42 20.5,16.5; F1 -20.5,15.5; F2 -19.5,15.5; F3 -18.5,15.5; F4 -17.5,15.5; F5 -16.5,15.5; F6 -15.5,15.5; F7 -14.5,15.5; F8 -13.5,15.5; F9 -12.5,15.5; F10 -11.5,15.5; F11 -10.5,15.5; F12 -9.5,15.5; F13 -8.5,15.5; F14 -7.5,15.5; F15 -6.5,15.5; F16 -5.5,15.5; F17 -4.5,15.5; F18 -3.5,15.5; F19 -2.5,15.5; F20 -1.5,15.5; F21 -0.5,15.5; F22 0.5,15.5; F23 1.5,15.5; F24 2.5,15.5; F25 3.5,15.5; F26 4.5,15.5; F27 5.5,15.5; F28 6.5,15.5; F29 7.5,15.5; F30 8.5,15.5; F31 9.5,15.5; F32 10.5,15.5; F33 11.5,15.5; F34 12.5,15.5; F35 13.5,15.5; F36 14.5,15.5; F37 15.5,15.5; F38 16.5,15.5; F39 17.5,15.5; F40 18.5,15.5; F41 19.5,15.5; F42 20.5,15.5; G1 -20.5,14.5; G2 -19.5,14.5; G3 -18.5,14.5; G4 -17.5,14.5; G5 -16.5,14.5; G6 -15.5,14.5; G7 -14.5,14.5; G8 -13.5,14.5; G9 -12.5,14.5; G10 -11.5,14.5; G11 -10.5,14.5; G12 -9.5,14.5; G13 -8.5,14.5; G14 -7.5,14.5; G15 -6.5,14.5; G16 -5.5,14.5; G17 -4.5,14.5; G18 -3.5,14.5; G19 -2.5,14.5; G20 -1.5,14.5; G21 -0.5,14.5; G22 0.5,14.5; G23 1.5,14.5; G24 2.5,14.5; G25 3.5,14.5; G26 4.5,14.5; G27 5.5,14.5; G28 6.5,14.5; G29 7.5,14.5; G30 8.5,14.5; G31 9.5,14.5; G32 10.5,14.5; G33 11.5,14.5; G34 12.5,14.5; G35 13.5,14.5; G36 14.5,14.5; G37 15.5,14.5; G38 16.5,14.5; G39 17.5,14.5; G40 18.5,14.5; G41 19.5,14.5; G42 20.5,14.5; H1 -20.5,13.5; H2 -19.5,13.5; H3 -18.5,13.5; H4 -17.5,13.5; H5 -16.5,13.5; H6 -15.5,13.5; H7 -14.5,13.5; H8 -13.5,13.5; H9 -12.5,13.5; H10 -11.5,13.5; H11 -10.5,13.5; H12 -9.5,13.5; H13 -8.5,13.5; H14 -7.5,13.5; H15 -6.5,13.5; H16 -5.5,13.5; H17 -4.5,13.5; H18 -3.5,13.5; H19 -2.5,13.5; H20 -1.5,13.5; H21 -0.5,13.5; H22 0.5,13.5; H23 1.5,13.5; H24 2.5,13.5; H25 3.5,13.5; H26 4.5,13.5; H27 5.5,13.5; H28 6.5,13.5; H29 7.5,13.5; H30 8.5,13.5; H31 9.5,13.5; H32 10.5,13.5; H33 11.5,13.5; H34 12.5,13.5; H35 13.5,13.5; H36 14.5,13.5; H37 15.5,13.5; H38 16.5,13.5; H39 17.5,13.5; H40 18.5,13.5; H41 19.5,13.5; H42 20.5,13.5; J1 -20.5,12.5; J2 -19.5,12.5; J3 -18.5,12.5; J4 -17.5,12.5; J5 -16.5,12.5; J6 -15.5,12.5; J7 -14.5,12.5; J8 -13.5,12.5; J9 -12.5,12.5; J10 -11.5,12.5; J11 -10.5,12.5; J12 -9.5,12.5; J13 -8.5,12.5; J14 -7.5,12.5; J15 -6.5,12.5; J16 -5.5,12.5; J17 -4.5,12.5; J18 -3.5,12.5; J19 -2.5,12.5; J20 -1.5,12.5; J21 -0.5,12.5; J22 0.5,12.5; J23 1.5,12.5; J24 2.5,12.5; J25 3.5,12.5; J26 4.5,12.5; J27 5.5,12.5; J28 6.5,12.5; J29 7.5,12.5; J30 8.5,12.5; J31 9.5,12.5; J32 10.5,12.5; J33 11.5,12.5; J34 12.5,12.5; J35 13.5,12.5; J36 14.5,12.5; J37 15.5,12.5; J38 16.5,12.5; J39 17.5,12.5; J40 18.5,12.5; J41 19.5,12.5; J42 20.5,12.5; K1 -20.5,11.5; K2 -19.5,11.5; K3 -18.5,11.5; K4 -17.5,11.5; K5 -16.5,11.5; K6 -15.5,11.5; K7 -14.5,11.5; K8 -13.5,11.5; K9 -12.5,11.5; K10 -11.5,11.5; K11 -10.5,11.5; K12 -9.5,11.5; K13 -8.5,11.5; K14 -7.5,11.5; K15 -6.5,11.5; K16 -5.5,11.5; K17 -4.5,11.5; K18 -3.5,11.5; K19 -2.5,11.5; K20 -1.5,11.5; K21 -0.5,11.5; K22 0.5,11.5; K23 1.5,11.5; K24 2.5,11.5; K25 3.5,11.5; K26 4.5,11.5; K27 5.5,11.5; K28 6.5,11.5; K29 7.5,11.5; K30 8.5,11.5; K31 9.5,11.5; K32 10.5,11.5; K33 11.5,11.5; K34 12.5,11.5; K35 13.5,11.5; K36 14.5,11.5; K37 15.5,11.5; K38 16.5,11.5; K39 17.5,11.5; K40 18.5,11.5; K41 19.5,11.5; K42 20.5,11.5; L1 -20.5,10.5; L2 -19.5,10.5; L3 -18.5,10.5; L4 -17.5,10.5; L5 -16.5,10.5; L6 -15.5,10.5; L7 -14.5,10.5; L8 -13.5,10.5; L9 -12.5,10.5; L10 -11.5,10.5; L11 -10.5,10.5; L12 -9.5,10.5; L13 -8.5,10.5; L14 -7.5,10.5; L15 -6.5,10.5; L16 -5.5,10.5; L17 -4.5,10.5; L18 -3.5,10.5; L19 -2.5,10.5; L20 -1.5,10.5; L21 -0.5,10.5; L22 0.5,10.5; L23 1.5,10.5; L24 2.5,10.5; L25 3.5,10.5; L26 4.5,10.5; L27 5.5,10.5; L28 6.5,10.5; L29 7.5,10.5; L30 8.5,10.5; L31 9.5,10.5; L32 10.5,10.5; L33 11.5,10.5; L34 12.5,10.5; L35 13.5,10.5; L36 14.5,10.5; L37 15.5,10.5; L38 16.5,10.5; L39 17.5,10.5; L40 18.5,10.5; L41 19.5,10.5; L42 20.5,10.5; M1 -20.5,9.5; M2 -19.5,9.5; M3 -18.5,9.5; M4 -17.5,9.5; M5 -16.5,9.5; M6 -15.5,9.5; M7 -14.5,9.5; M8 -13.5,9.5; M9 -12.5,9.5; M10 -11.5,9.5; M11 -10.5,9.5; M12 -9.5,9.5; M13 -8.5,9.5; M14 -7.5,9.5; M15 -6.5,9.5; M16 -5.5,9.5; M17 -4.5,9.5; M18 -3.5,9.5; M19 -2.5,9.5; M20 -1.5,9.5; M21 -0.5,9.5; M22 0.5,9.5; M23 1.5,9.5; M24 2.5,9.5; M25 3.5,9.5; M26 4.5,9.5; M27 5.5,9.5; M28 6.5,9.5; M29 7.5,9.5; M30 8.5,9.5; M31 9.5,9.5; M32 10.5,9.5; M33 11.5,9.5; M34 12.5,9.5; M35 13.5,9.5; M36 14.5,9.5; M37 15.5,9.5; M38 16.5,9.5; M39 17.5,9.5; M40 18.5,9.5; M41 19.5,9.5; M42 20.5,9.5; N1 -20.5,8.5; N2 -19.5,8.5; N3 -18.5,8.5; N4 -17.5,8.5; N5 -16.5,8.5; N6 -15.5,8.5; N7 -14.5,8.5; N8 -13.5,8.5; N9 -12.5,8.5; N10 -11.5,8.5; N11 -10.5,8.5; N12 -9.5,8.5; N13 -8.5,8.5; N14 -7.5,8.5; N15 -6.5,8.5; N16 -5.5,8.5; N17 -4.5,8.5; N18 -3.5,8.5; N19 -2.5,8.5; N20 -1.5,8.5; N21 -0.5,8.5; N22 0.5,8.5; N23 1.5,8.5; N24 2.5,8.5; N25 3.5,8.5; N26 4.5,8.5; N27 5.5,8.5; N28 6.5,8.5; N29 7.5,8.5; N30 8.5,8.5; N31 9.5,8.5; N32 10.5,8.5; N33 11.5,8.5; N34 12.5,8.5; N35 13.5,8.5; N36 14.5,8.5; N37 15.5,8.5; N38 16.5,8.5; N39 17.5,8.5; N40 18.5,8.5; N41 19.5,8.5; N42 20.5,8.5; P1 -20.5,7.5; P2 -19.5,7.5; P3 -18.5,7.5; P4 -17.5,7.5; P5 -16.5,7.5; P6 -15.5,7.5; P7 -14.5,7.5; P8 -13.5,7.5; P9 -12.5,7.5; P10 -11.5,7.5; P11 -10.5,7.5; P12 -9.5,7.5; P13 -8.5,7.5; P14 -7.5,7.5; P15 -6.5,7.5; P16 -5.5,7.5; P17 -4.5,7.5; P18 -3.5,7.5; P19 -2.5,7.5; P20 -1.5,7.5; P21 -0.5,7.5; P22 0.5,7.5; P23 1.5,7.5; P24 2.5,7.5; P25 3.5,7.5; P26 4.5,7.5; P27 5.5,7.5; P28 6.5,7.5; P29 7.5,7.5; P30 8.5,7.5; P31 9.5,7.5; P32 10.5,7.5; P33 11.5,7.5; P34 12.5,7.5; P35 13.5,7.5; P36 14.5,7.5; P37 15.5,7.5; P38 16.5,7.5; P39 17.5,7.5; P40 18.5,7.5; P41 19.5,7.5; P42 20.5,7.5; R1 -20.5,6.5; R2 -19.5,6.5; R3 -18.5,6.5; R4 -17.5,6.5; R5 -16.5,6.5; R6 -15.5,6.5; R7 -14.5,6.5; R8 -13.5,6.5; R9 -12.5,6.5; R10 -11.5,6.5; R11 -10.5,6.5; R12 -9.5,6.5; R13 -8.5,6.5; R14 -7.5,6.5; R15 -6.5,6.5; R16 -5.5,6.5; R17 -4.5,6.5; R18 -3.5,6.5; R19 -2.5,6.5; R20 -1.5,6.5; R21 -0.5,6.5; R22 0.5,6.5; R23 1.5,6.5; R24 2.5,6.5; R25 3.5,6.5; R26 4.5,6.5; R27 5.5,6.5; R28 6.5,6.5; R29 7.5,6.5; R30 8.5,6.5; R31 9.5,6.5; R32 10.5,6.5; R33 11.5,6.5; R34 12.5,6.5; R35 13.5,6.5; R36 14.5,6.5; R37 15.5,6.5; R38 16.5,6.5; R39 17.5,6.5; R40 18.5,6.5; R41 19.5,6.5; R42 20.5,6.5; T1 -20.5,5.5; T2 -19.5,5.5; T3 -18.5,5.5; T4 -17.5,5.5; T5 -16.5,5.5; T6 -15.5,5.5; T7 -14.5,5.5; T8 -13.5,5.5; T9 -12.5,5.5; T10 -11.5,5.5; T11 -10.5,5.5; T12 -9.5,5.5; T13 -8.5,5.5; T14 -7.5,5.5; T15 -6.5,5.5; T16 -5.5,5.5; T17 -4.5,5.5; T18 -3.5,5.5; T19 -2.5,5.5; T20 -1.5,5.5; T21 -0.5,5.5; T22 0.5,5.5; T23 1.5,5.5; T24 2.5,5.5; T25 3.5,5.5; T26 4.5,5.5; T27 5.5,5.5; T28 6.5,5.5; T29 7.5,5.5; T30 8.5,5.5; T31 9.5,5.5; T32 10.5,5.5; T33 11.5,5.5; T34 12.5,5.5; T35 13.5,5.5; T36 14.5,5.5; T37 15.5,5.5; T38 16.5,5.5; T39 17.5,5.5; T40 18.5,5.5; T41 19.5,5.5; T42 20.5,5.5; U1 -20.5,4.5; U2 -19.5,4.5; U3 -18.5,4.5; U4 -17.5,4.5; U5 -16.5,4.5; U6 -15.5,4.5; U7 -14.5,4.5; U8 -13.5,4.5; U9 -12.5,4.5; U10 -11.5,4.5; U11 -10.5,4.5; U12 -9.5,4.5; U13 -8.5,4.5; U14 -7.5,4.5; U15 -6.5,4.5; U16 -5.5,4.5; U17 -4.5,4.5; U18 -3.5,4.5; U19 -2.5,4.5; U20 -1.5,4.5; U21 -0.5,4.5; U22 0.5,4.5; U23 1.5,4.5; U24 2.5,4.5; U25 3.5,4.5; U26 4.5,4.5; U27 5.5,4.5; U28 6.5,4.5; U29 7.5,4.5; U30 8.5,4.5; U31 9.5,4.5; U32 10.5,4.5; U33 11.5,4.5; U34 12.5,4.5; U35 13.5,4.5; U36 14.5,4.5; U37 15.5,4.5; U38 16.5,4.5; U39 17.5,4.5; U40 18.5,4.5; U41 19.5,4.5; U42 20.5,4.5; V1 -20.5,3.5; V2 -19.5,3.5; V3 -18.5,3.5; V4 -17.5,3.5; V5 -16.5,3.5; V6 -15.5,3.5; V7 -14.5,3.5; V8 -13.5,3.5; V9 -12.5,3.5; V10 -11.5,3.5; V11 -10.5,3.5; V12 -9.5,3.5; V13 -8.5,3.5; V14 -7.5,3.5; V15 -6.5,3.5; V16 -5.5,3.5; V17 -4.5,3.5; V18 -3.5,3.5; V19 -2.5,3.5; V20 -1.5,3.5; V21 -0.5,3.5; V22 0.5,3.5; V23 1.5,3.5; V24 2.5,3.5; V25 3.5,3.5; V26 4.5,3.5; V27 5.5,3.5; V28 6.5,3.5; V29 7.5,3.5; V30 8.5,3.5; V31 9.5,3.5; V32 10.5,3.5; V33 11.5,3.5; V34 12.5,3.5; V35 13.5,3.5; V36 14.5,3.5; V37 15.5,3.5; V38 16.5,3.5; V39 17.5,3.5; V40 18.5,3.5; V41 19.5,3.5; V42 20.5,3.5; W1 -20.5,2.5; W2 -19.5,2.5; W3 -18.5,2.5; W4 -17.5,2.5; W5 -16.5,2.5; W6 -15.5,2.5; W7 -14.5,2.5; W8 -13.5,2.5; W9 -12.5,2.5; W10 -11.5,2.5; W11 -10.5,2.5; W12 -9.5,2.5; W13 -8.5,2.5; W14 -7.5,2.5; W15 -6.5,2.5; W16 -5.5,2.5; W17 -4.5,2.5; W18 -3.5,2.5; W19 -2.5,2.5; W20 -1.5,2.5; W21 -0.5,2.5; W22 0.5,2.5; W23 1.5,2.5; W24 2.5,2.5; W25 3.5,2.5; W26 4.5,2.5; W27 5.5,2.5; W28 6.5,2.5; W29 7.5,2.5; W30 8.5,2.5; W31 9.5,2.5; W32 10.5,2.5; W33 11.5,2.5; W34 12.5,2.5; W35 13.5,2.5; W36 14.5,2.5; W37 15.5,2.5; W38 16.5,2.5; W39 17.5,2.5; W40 18.5,2.5; W41 19.5,2.5; W42 20.5,2.5; Y1 -20.5,1.5; Y2 -19.5,1.5; Y3 -18.5,1.5; Y4 -17.5,1.5; Y5 -16.5,1.5; Y6 -15.5,1.5; Y7 -14.5,1.5; Y8 -13.5,1.5; Y9 -12.5,1.5; Y10 -11.5,1.5; Y11 -10.5,1.5; Y12 -9.5,1.5; Y13 -8.5,1.5; Y14 -7.5,1.5; Y15 -6.5,1.5; Y16 -5.5,1.5; Y17 -4.5,1.5; Y18 -3.5,1.5; Y19 -2.5,1.5; Y20 -1.5,1.5; Y21 -0.5,1.5; Y22 0.5,1.5; Y23 1.5,1.5; Y24 2.5,1.5; Y25 3.5,1.5; Y26 4.5,1.5; Y27 5.5,1.5; Y28 6.5,1.5; Y29 7.5,1.5; Y30 8.5,1.5; Y31 9.5,1.5; Y32 10.5,1.5; Y33 11.5,1.5; Y34 12.5,1.5; Y35 13.5,1.5; Y36 14.5,1.5; Y37 15.5,1.5; Y38 16.5,1.5; Y39 17.5,1.5; Y40 18.5,1.5; Y41 19.5,1.5; Y42 20.5,1.5